# Altium integrated library Motorola Microcontroller 16-Bit.IntLib: 323 symbols (part 8 of 21)
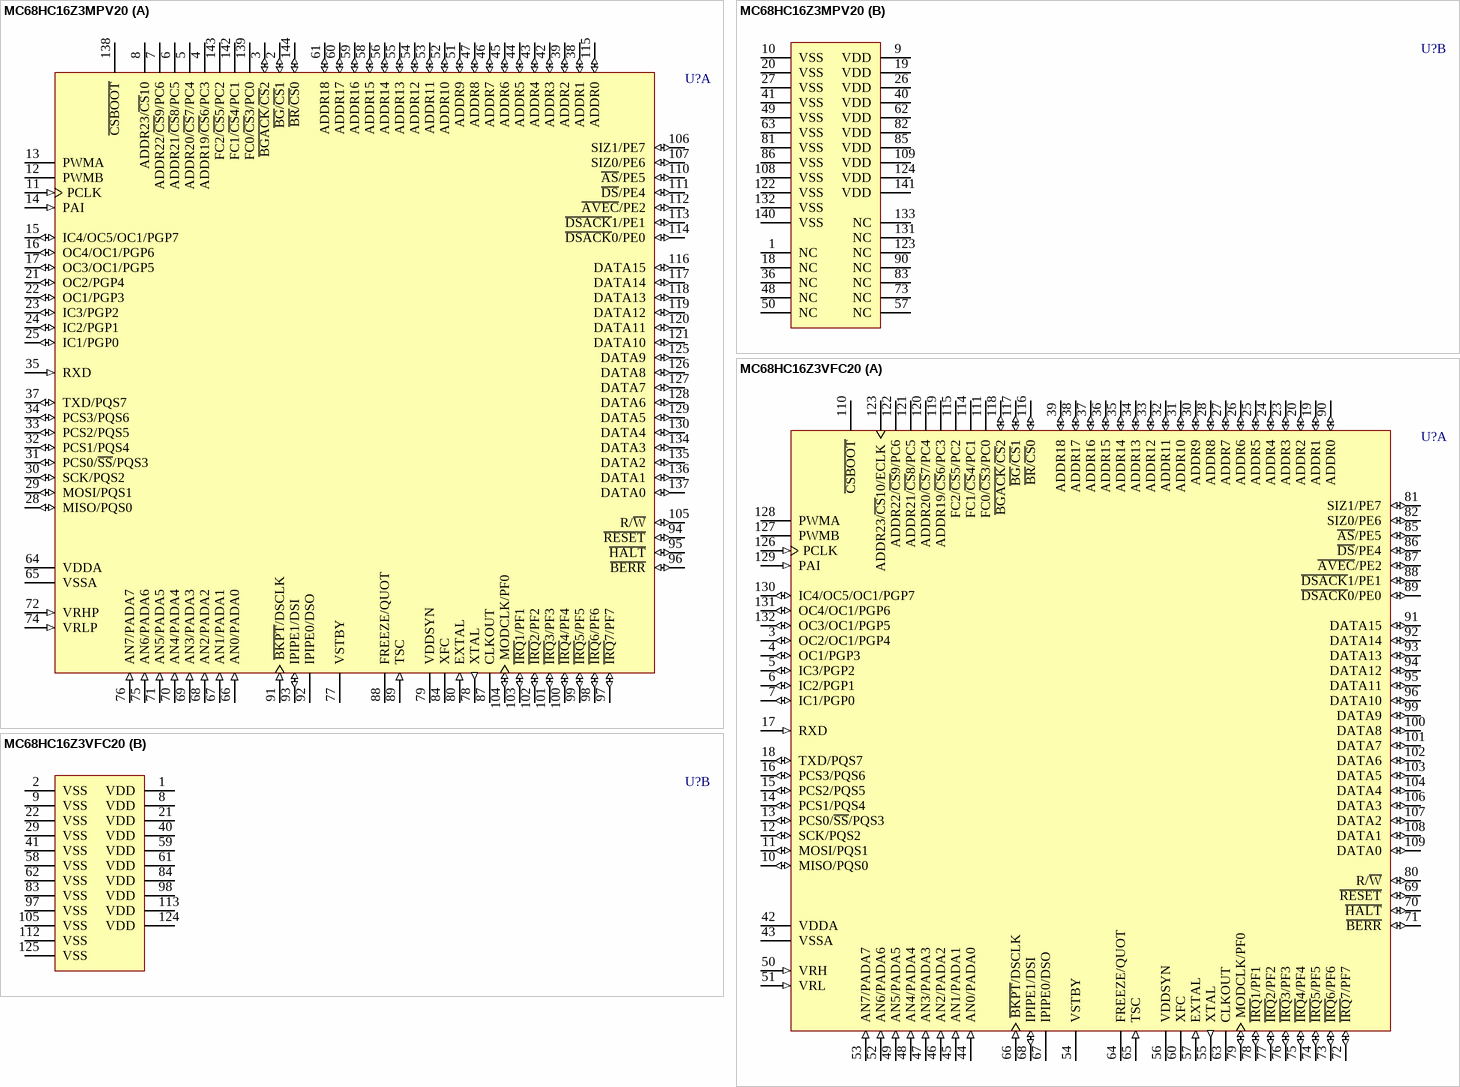
[diagram p148: symbols MC68HC16Z3MPV20 to MC68HC16Z3VFC20]

## MC68HC16Z3VFC20
designator U?
M68HC16 Z-Series MCU; PackageDocument: 1997; Published: 21-Mar-2003; DatasheetDocument: Oct-1997; PackageReference: 831A-01; Publisher: Altium Limited; ComponentLink1Description: Manufacturer Link; ComponentLink1URL: http://www.freescale.com/; ComponentLink2Description: Datasheet; ComponentLink2URL: http://www.freescale.com/files/microcontrollers/doc/user_guide/MC68HC16ZUM.pdf; ComponentLink3Description: Instruction Set; ComponentLink3URL: http://www.freescale.com/files/microcontrollers/doc/ref_manual/CPU16RM.pdf
footprint 831A-01 (PQFP; 132 Leads; Body 24.2 x 24.2 mm; Pitch 0.635 mm)
part A pins: 3 OC2/OC1/PGP4 (io), 4 OC1/PGP3 (io), 5 IC3/PGP2 (io), 6 IC2/PGP1 (io), 7 IC1/PGP0 (io), 10 MISO/PQS0 (io), 11 MOSI/PQS1 (io), 12 SCK/PQS2 (io), 13 PCS0/~{SS}/PQS3 (io), 14 PCS1/PQS4 (io), 15 PCS2/PQS5 (io), 16 PCS3/PQS6 (io), 17 RXD (in), 18 TXD/PQS7 (io), 19 ADDR1 (io), 20 ADDR2 (io), 23 ADDR3 (io), 24 ADDR4 (io), 25 ADDR5 (io), 26 ADDR6 (io), 27 ADDR7 (io), 28 ADDR8 (io), 30 ADDR9 (io), 31 ADDR10 (io), 32 ADDR11 (io), 33 ADDR12 (io), 34 ADDR13 (io), 35 ADDR14 (io), 36 ADDR15 (io), 37 ADDR16 (io), 38 ADDR17 (io), 39 ADDR18 (io), 42 VDDA (power), 43 VSSA (power), 44 AN0/PADA0 (in), 45 AN1/PADA1 (in), 46 AN2/PADA2 (in), 47 AN3/PADA3 (in), 48 AN4/PADA4 (in), 49 AN5/PADA5 (in), 50 VRH (in), 51 VRL (in), 52 AN6/PADA6 (in), 53 AN7/PADA7 (in), 54 VSTBY (power), 55 XTAL (out), 56 VDDSYN (power), 57 EXTAL (in), 60 XFC, 63 CLKOUT (hiz), 64 FREEZE/QUOT (hiz), 65 TSC (in), 66 ~{BKPT}/DSCLK (in), 67 IPIPE0/DSO (hiz), 68 IPIPE1/DSI (io), 69 ~{RESET} (io), 70 ~{HALT} (io), 71 ~{BERR} (io), 72 ~{IRQ}7/PF7 (io), 73 ~{IRQ}6/PF6 (io), 74 ~{IRQ}5/PF5 (io), 75 ~{IRQ}4/PF4 (io), 76 ~{IRQ}3/PF3 (io), 77 ~{IRQ}2/PF2 (io), 78 ~{IRQ}1/PF1 (io), 79 MODCLK/PF0 (io), 80 R/~{W} (io), 81 SIZ1/PE7 (io), 82 SIZ0/PE6 (io), 85 ~{AS}/PE5 (io), 86 ~{DS}/PE4 (io), 87 ~{AVEC}/PE2 (io), 88 ~{DSACK}1/PE1 (io), 89 ~{DSACK}0/PE0 (io), 90 ADDR0 (io), 91 DATA15 (io), 92 DATA14 (io), 93 DATA13 (io), 94 DATA12 (io), 95 DATA11 (io), 96 DATA10 (io), 99 DATA9 (io), 100 DATA8 (io), 101 DATA7 (io), 102 DATA6 (io), 103 DATA5 (io), 104 DATA4 (io), 106 DATA3 (io), 107 DATA2 (io), 108 DATA1 (io), 109 DATA0 (io), 110 ~{CSBOOT} (hiz), 111 FC0/~{CS}3/PC0 (hiz), 114 FC1/~{CS}4/PC1 (hiz), 115 FC2/~{CS}5/PC2 (hiz), 116 ~{BR}/~{CS}0 (io), 117 ~{BG}/~{CS}1 (io), 118 ~{BGACK}/~{CS}2 (io), 119 ADDR19/~{CS}6/PC3 (hiz), 120 ADDR20/~{CS}7/PC4 (hiz), 121 ADDR21/~{CS}8/PC5 (hiz), 122 ADDR22/~{CS}9/PC6 (hiz), 123 ADDR23/~{CS}10/ECLK (hiz), 126 PCLK (in), 127 PWMB (hiz), 128 PWMA (hiz), 129 PAI (in), 130 IC4/OC5/OC1/PGP7 (io), 131 OC4/OC1/PGP6 (io), 132 OC3/OC1/PGP5 (io)
part B pins: 1 VDD (power), 2 VSS (power), 8 VDD (power), 9 VSS (power), 21 VDD (power), 22 VSS (power), 29 VSS (power), 40 VDD (power), 41 VSS (power), 58 VSS (power), 59 VDD (power), 61 VDD (power), 62 VSS (power), 83 VSS (power), 84 VDD (power), 97 VSS (power), 98 VDD (power), 105 VSS (power), 112 VSS (power), 113 VDD (power), 124 VDD (power), 125 VSS (power)

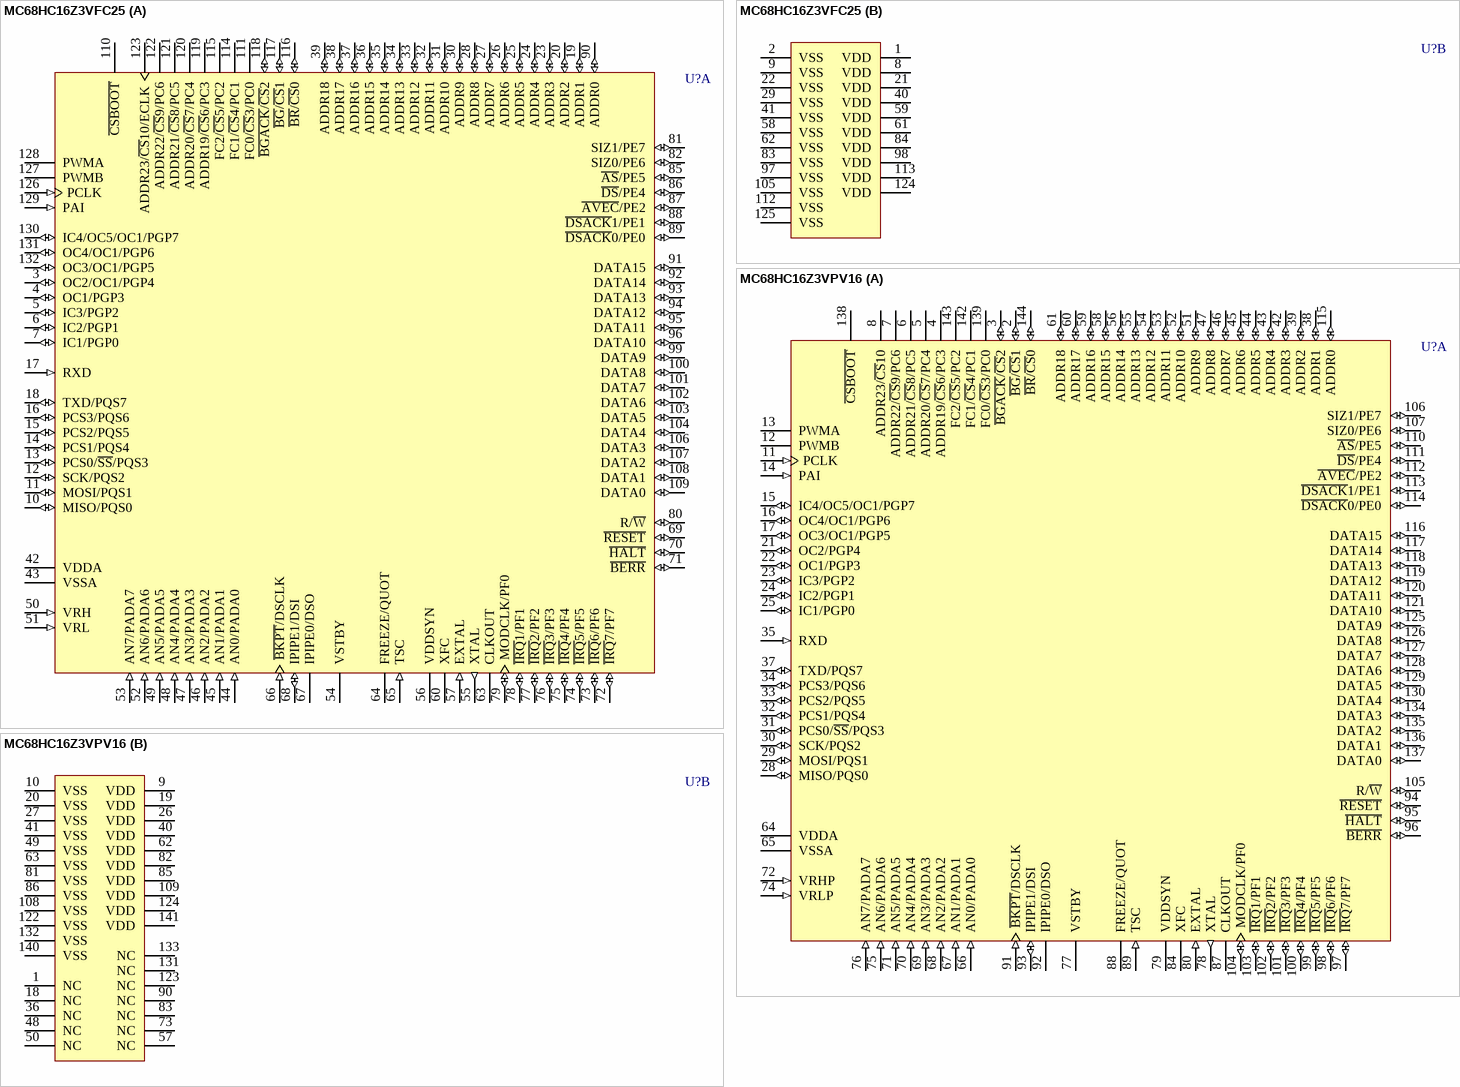
[diagram p41: symbols MC68HC16Z3VFC25 to MC68HC16Z3VPV16]

## MC68HC16Z3VFC25
designator U?
M68HC16 Z-Series MCU; PackageDocument: 1997; Published: 21-Mar-2003; DatasheetDocument: Oct-1997; PackageReference: 831A-01; Publisher: Altium Limited; ComponentLink1Description: Manufacturer Link; ComponentLink1URL: http://www.freescale.com/; ComponentLink2Description: Datasheet; ComponentLink2URL: http://www.freescale.com/files/microcontrollers/doc/user_guide/MC68HC16ZUM.pdf; ComponentLink3Description: Instruction Set; ComponentLink3URL: http://www.freescale.com/files/microcontrollers/doc/ref_manual/CPU16RM.pdf
footprint 831A-01 (PQFP; 132 Leads; Body 24.2 x 24.2 mm; Pitch 0.635 mm)
part A pins: 3 OC2/OC1/PGP4 (io), 4 OC1/PGP3 (io), 5 IC3/PGP2 (io), 6 IC2/PGP1 (io), 7 IC1/PGP0 (io), 10 MISO/PQS0 (io), 11 MOSI/PQS1 (io), 12 SCK/PQS2 (io), 13 PCS0/~{SS}/PQS3 (io), 14 PCS1/PQS4 (io), 15 PCS2/PQS5 (io), 16 PCS3/PQS6 (io), 17 RXD (in), 18 TXD/PQS7 (io), 19 ADDR1 (io), 20 ADDR2 (io), 23 ADDR3 (io), 24 ADDR4 (io), 25 ADDR5 (io), 26 ADDR6 (io), 27 ADDR7 (io), 28 ADDR8 (io), 30 ADDR9 (io), 31 ADDR10 (io), 32 ADDR11 (io), 33 ADDR12 (io), 34 ADDR13 (io), 35 ADDR14 (io), 36 ADDR15 (io), 37 ADDR16 (io), 38 ADDR17 (io), 39 ADDR18 (io), 42 VDDA (power), 43 VSSA (power), 44 AN0/PADA0 (in), 45 AN1/PADA1 (in), 46 AN2/PADA2 (in), 47 AN3/PADA3 (in), 48 AN4/PADA4 (in), 49 AN5/PADA5 (in), 50 VRH (in), 51 VRL (in), 52 AN6/PADA6 (in), 53 AN7/PADA7 (in), 54 VSTBY (power), 55 XTAL (out), 56 VDDSYN (power), 57 EXTAL (in), 60 XFC, 63 CLKOUT (hiz), 64 FREEZE/QUOT (hiz), 65 TSC (in), 66 ~{BKPT}/DSCLK (in), 67 IPIPE0/DSO (hiz), 68 IPIPE1/DSI (io), 69 ~{RESET} (io), 70 ~{HALT} (io), 71 ~{BERR} (io), 72 ~{IRQ}7/PF7 (io), 73 ~{IRQ}6/PF6 (io), 74 ~{IRQ}5/PF5 (io), 75 ~{IRQ}4/PF4 (io), 76 ~{IRQ}3/PF3 (io), 77 ~{IRQ}2/PF2 (io), 78 ~{IRQ}1/PF1 (io), 79 MODCLK/PF0 (io), 80 R/~{W} (io), 81 SIZ1/PE7 (io), 82 SIZ0/PE6 (io), 85 ~{AS}/PE5 (io), 86 ~{DS}/PE4 (io), 87 ~{AVEC}/PE2 (io), 88 ~{DSACK}1/PE1 (io), 89 ~{DSACK}0/PE0 (io), 90 ADDR0 (io), 91 DATA15 (io), 92 DATA14 (io), 93 DATA13 (io), 94 DATA12 (io), 95 DATA11 (io), 96 DATA10 (io), 99 DATA9 (io), 100 DATA8 (io), 101 DATA7 (io), 102 DATA6 (io), 103 DATA5 (io), 104 DATA4 (io), 106 DATA3 (io), 107 DATA2 (io), 108 DATA1 (io), 109 DATA0 (io), 110 ~{CSBOOT} (hiz), 111 FC0/~{CS}3/PC0 (hiz), 114 FC1/~{CS}4/PC1 (hiz), 115 FC2/~{CS}5/PC2 (hiz), 116 ~{BR}/~{CS}0 (io), 117 ~{BG}/~{CS}1 (io), 118 ~{BGACK}/~{CS}2 (io), 119 ADDR19/~{CS}6/PC3 (hiz), 120 ADDR20/~{CS}7/PC4 (hiz), 121 ADDR21/~{CS}8/PC5 (hiz), 122 ADDR22/~{CS}9/PC6 (hiz), 123 ADDR23/~{CS}10/ECLK (hiz), 126 PCLK (in), 127 PWMB (hiz), 128 PWMA (hiz), 129 PAI (in), 130 IC4/OC5/OC1/PGP7 (io), 131 OC4/OC1/PGP6 (io), 132 OC3/OC1/PGP5 (io)
part B pins: 1 VDD (power), 2 VSS (power), 8 VDD (power), 9 VSS (power), 21 VDD (power), 22 VSS (power), 29 VSS (power), 40 VDD (power), 41 VSS (power), 58 VSS (power), 59 VDD (power), 61 VDD (power), 62 VSS (power), 83 VSS (power), 84 VDD (power), 97 VSS (power), 98 VDD (power), 105 VSS (power), 112 VSS (power), 113 VDD (power), 124 VDD (power), 125 VSS (power)

## MC68HC16Z3VPV16
designator U?
M68HC16 Z-Series MCU; PackageDocument: 1997; Published: 21-Mar-2003; LatestRevisionDate: 6-Jun-2005; LatestRevisionNote: Stylized 3D Model Added.; DatasheetDocument: Oct-1997; PackageReference: 918; Publisher: Altium Limited; Code_IPC: SQFP20X20-144; ComponentLink1Description: Manufacturer Link; ComponentLink1URL: http://www.freescale.com/; ComponentLink2Description: Datasheet; ComponentLink2URL: http://www.freescale.com/files/microcontrollers/doc/user_guide/MC68HC16ZUM.pdf; ComponentLink3Description: Instruction Set; ComponentLink3URL: http://www.freescale.com/files/microcontrollers/doc/ref_manual/CPU16RM.pdf
footprint 918 (QFP; 144 Leads; Body 20 x 20 mm; Pitch 0.5 mm)
3D model MC68HC16-918 (QFP; 144 Leads; Body 20 x 20 mm; Pitch 0.5 mm)
part A pins: 2 ~{BG}/~{CS}1 (io), 3 ~{BGACK}/~{CS}2 (io), 4 ADDR19/~{CS}6/PC3 (hiz), 5 ADDR20/~{CS}7/PC4 (hiz), 6 ADDR21/~{CS}8/PC5 (hiz), 7 ADDR22/~{CS}9/PC6 (hiz), 8 ADDR23/~{CS}10 (hiz), 11 PCLK (in), 12 PWMB (hiz), 13 PWMA (hiz), 14 PAI (in), 15 IC4/OC5/OC1/PGP7 (io), 16 OC4/OC1/PGP6 (io), 17 OC3/OC1/PGP5 (io), 21 OC2/PGP4 (io), 22 OC1/PGP3 (io), 23 IC3/PGP2 (io), 24 IC2/PGP1 (io), 25 IC1/PGP0 (io), 28 MISO/PQS0 (io), 29 MOSI/PQS1 (io), 30 SCK/PQS2 (io), 31 PCS0/~{SS}/PQS3 (io), 32 PCS1/PQS4 (io), 33 PCS2/PQS5 (io), 34 PCS3/PQS6 (io), 35 RXD (in), 37 TXD/PQS7 (io), 38 ADDR1 (io), 39 ADDR2 (io), 42 ADDR3 (io), 43 ADDR4 (io), 44 ADDR5 (io), 45 ADDR6 (io), 46 ADDR7 (io), 47 ADDR8 (io), 51 ADDR9 (io), 52 ADDR10 (io), 53 ADDR11 (io), 54 ADDR12 (io), 55 ADDR13 (io), 56 ADDR14 (io), 58 ADDR15 (io), 59 ADDR16 (io), 60 ADDR17 (io), 61 ADDR18 (io), 64 VDDA (power), 65 VSSA (power), 66 AN0/PADA0 (in), 67 AN1/PADA1 (in), 68 AN2/PADA2 (in), 69 AN3/PADA3 (in), 70 AN4/PADA4 (in), 71 AN5/PADA5 (in), 72 VRHP (in), 74 VRLP (in), 75 AN6/PADA6 (in), 76 AN7/PADA7 (in), 77 VSTBY (power), 78 XTAL (out), 79 VDDSYN (power), 80 EXTAL (in), 84 XFC, 87 CLKOUT (hiz), 88 FREEZE/QUOT (hiz), 89 TSC (in), 91 ~{BKPT}/DSCLK (in), 92 IPIPE0/DSO (hiz), 93 IPIPE1/DSI (io), 94 ~{RESET} (io), 95 ~{HALT} (io), 96 ~{BERR} (io), 97 ~{IRQ}7/PF7 (io), 98 ~{IRQ}6/PF6 (io), 99 ~{IRQ}5/PF5 (io), 100 ~{IRQ}4/PF4 (io), 101 ~{IRQ}3/PF3 (io), 102 ~{IRQ}2/PF2 (io), 103 ~{IRQ}1/PF1 (io), 104 MODCLK/PF0 (io), 105 R/~{W} (io), 106 SIZ1/PE7 (io), 107 SIZ0/PE6 (io), 110 ~{AS}/PE5 (io), 111 ~{DS}/PE4 (io), 112 ~{AVEC}/PE2 (io), 113 ~{DSACK}1/PE1 (io), 114 ~{DSACK}0/PE0 (io), 115 ADDR0 (io), 116 DATA15 (io), 117 DATA14 (io), 118 DATA13 (io), 119 DATA12 (io), 120 DATA11 (io), 121 DATA10 (io), 125 DATA9 (io), 126 DATA8 (io), 127 DATA7 (io), 128 DATA6 (io), 129 DATA5 (io), 130 DATA4 (io), 134 DATA3 (io), 135 DATA2 (io), 136 DATA1 (io), 137 DATA0 (io), 138 ~{CSBOOT} (hiz), 139 FC0/~{CS}3/PC0 (hiz), 142 FC1/~{CS}4/PC1 (hiz), 143 FC2/~{CS}5/PC2 (hiz), 144 ~{BR}/~{CS}0 (io)
part B pins: 1 NC, 9 VDD (power), 10 VSS (power), 18 NC, 19 VDD (power), 20 VSS (power), 26 VDD (power), 27 VSS (power), 36 NC, 40 VDD (power), 41 VSS (power), 48 NC, 49 VSS (power), 50 NC, 57 NC, 62 VDD (power), 63 VSS (power), 73 NC, 81 VSS (power), 82 VDD (power), 83 NC, 85 VDD (power), 86 VSS (power), 90 NC, 108 VSS (power), 109 VDD (power), 122 VSS (power), 123 NC, 124 VDD (power), 131 NC, 132 VSS (power), 133 NC, 140 VSS (power), 141 VDD (power)

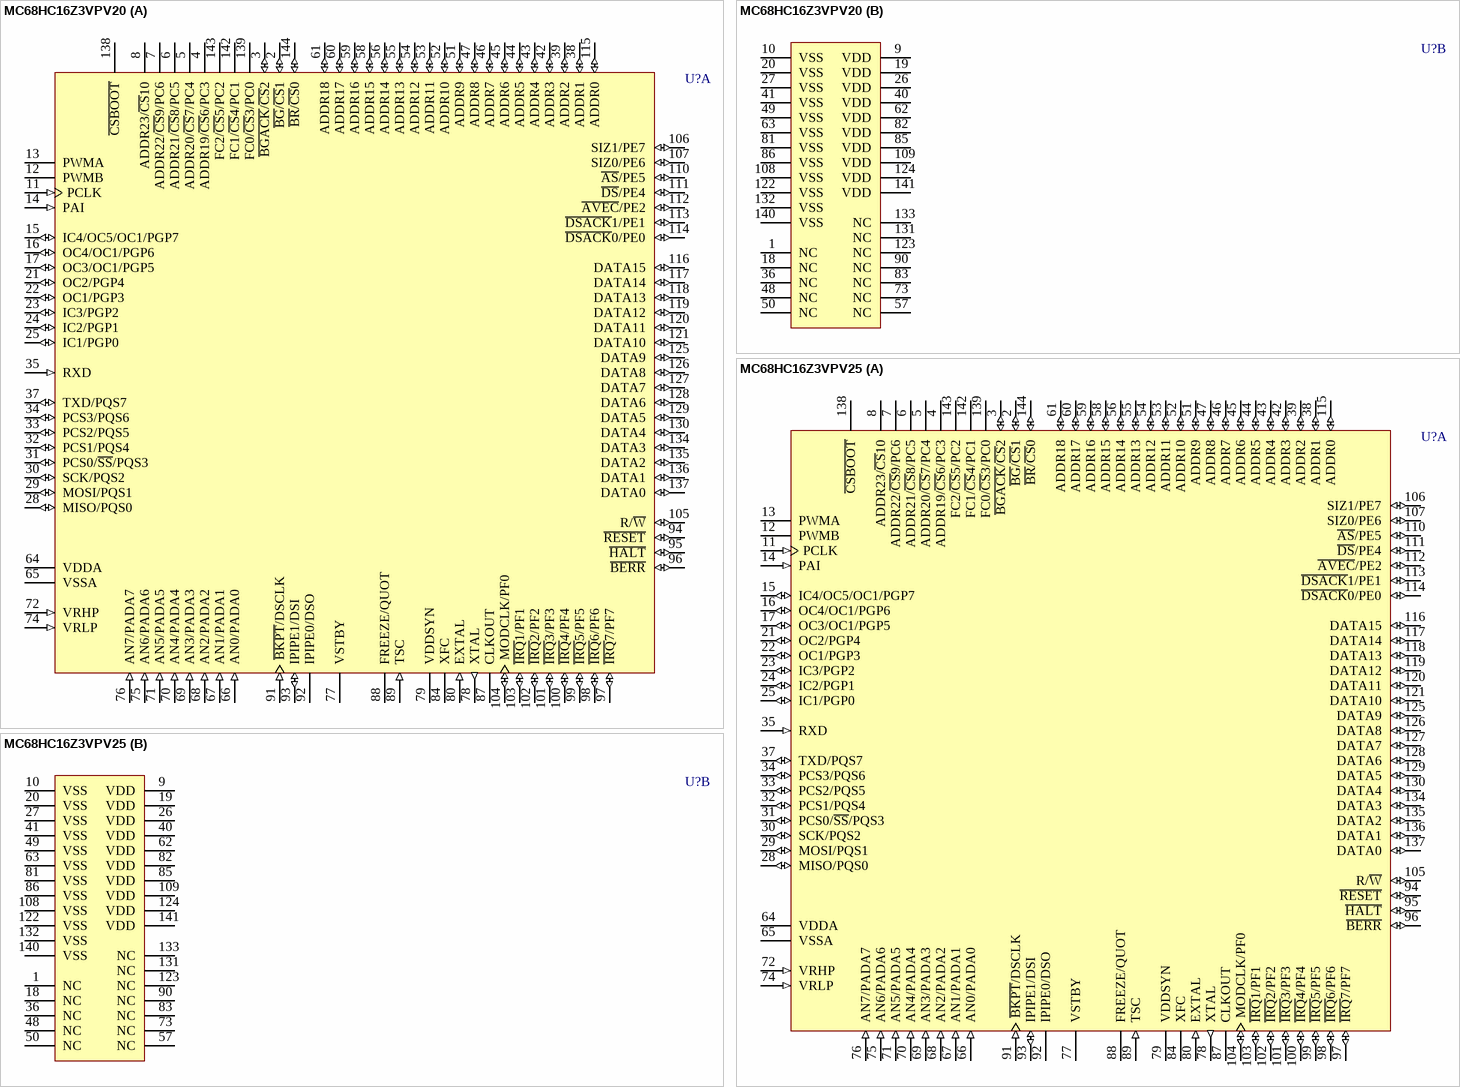
[diagram p42: symbols MC68HC16Z3VPV20 to MC68HC16Z3VPV25]

## MC68HC16Z3VPV20
designator U?
M68HC16 Z-Series MCU; PackageDocument: 1997; Published: 21-Mar-2003; LatestRevisionDate: 6-Jun-2005; LatestRevisionNote: Stylized 3D Model Added.; DatasheetDocument: Oct-1997; PackageReference: 918; Publisher: Altium Limited; Code_IPC: SQFP20X20-144; ComponentLink1Description: Manufacturer Link; ComponentLink1URL: http://www.freescale.com/; ComponentLink2Description: Datasheet; ComponentLink2URL: http://www.freescale.com/files/microcontrollers/doc/user_guide/MC68HC16ZUM.pdf; ComponentLink3Description: Instruction Set; ComponentLink3URL: http://www.freescale.com/files/microcontrollers/doc/ref_manual/CPU16RM.pdf
footprint 918 (QFP; 144 Leads; Body 20 x 20 mm; Pitch 0.5 mm)
3D model MC68HC16-918 (QFP; 144 Leads; Body 20 x 20 mm; Pitch 0.5 mm)
part A pins: 2 ~{BG}/~{CS}1 (io), 3 ~{BGACK}/~{CS}2 (io), 4 ADDR19/~{CS}6/PC3 (hiz), 5 ADDR20/~{CS}7/PC4 (hiz), 6 ADDR21/~{CS}8/PC5 (hiz), 7 ADDR22/~{CS}9/PC6 (hiz), 8 ADDR23/~{CS}10 (hiz), 11 PCLK (in), 12 PWMB (hiz), 13 PWMA (hiz), 14 PAI (in), 15 IC4/OC5/OC1/PGP7 (io), 16 OC4/OC1/PGP6 (io), 17 OC3/OC1/PGP5 (io), 21 OC2/PGP4 (io), 22 OC1/PGP3 (io), 23 IC3/PGP2 (io), 24 IC2/PGP1 (io), 25 IC1/PGP0 (io), 28 MISO/PQS0 (io), 29 MOSI/PQS1 (io), 30 SCK/PQS2 (io), 31 PCS0/~{SS}/PQS3 (io), 32 PCS1/PQS4 (io), 33 PCS2/PQS5 (io), 34 PCS3/PQS6 (io), 35 RXD (in), 37 TXD/PQS7 (io), 38 ADDR1 (io), 39 ADDR2 (io), 42 ADDR3 (io), 43 ADDR4 (io), 44 ADDR5 (io), 45 ADDR6 (io), 46 ADDR7 (io), 47 ADDR8 (io), 51 ADDR9 (io), 52 ADDR10 (io), 53 ADDR11 (io), 54 ADDR12 (io), 55 ADDR13 (io), 56 ADDR14 (io), 58 ADDR15 (io), 59 ADDR16 (io), 60 ADDR17 (io), 61 ADDR18 (io), 64 VDDA (power), 65 VSSA (power), 66 AN0/PADA0 (in), 67 AN1/PADA1 (in), 68 AN2/PADA2 (in), 69 AN3/PADA3 (in), 70 AN4/PADA4 (in), 71 AN5/PADA5 (in), 72 VRHP (in), 74 VRLP (in), 75 AN6/PADA6 (in), 76 AN7/PADA7 (in), 77 VSTBY (power), 78 XTAL (out), 79 VDDSYN (power), 80 EXTAL (in), 84 XFC, 87 CLKOUT (hiz), 88 FREEZE/QUOT (hiz), 89 TSC (in), 91 ~{BKPT}/DSCLK (in), 92 IPIPE0/DSO (hiz), 93 IPIPE1/DSI (io), 94 ~{RESET} (io), 95 ~{HALT} (io), 96 ~{BERR} (io), 97 ~{IRQ}7/PF7 (io), 98 ~{IRQ}6/PF6 (io), 99 ~{IRQ}5/PF5 (io), 100 ~{IRQ}4/PF4 (io), 101 ~{IRQ}3/PF3 (io), 102 ~{IRQ}2/PF2 (io), 103 ~{IRQ}1/PF1 (io), 104 MODCLK/PF0 (io), 105 R/~{W} (io), 106 SIZ1/PE7 (io), 107 SIZ0/PE6 (io), 110 ~{AS}/PE5 (io), 111 ~{DS}/PE4 (io), 112 ~{AVEC}/PE2 (io), 113 ~{DSACK}1/PE1 (io), 114 ~{DSACK}0/PE0 (io), 115 ADDR0 (io), 116 DATA15 (io), 117 DATA14 (io), 118 DATA13 (io), 119 DATA12 (io), 120 DATA11 (io), 121 DATA10 (io), 125 DATA9 (io), 126 DATA8 (io), 127 DATA7 (io), 128 DATA6 (io), 129 DATA5 (io), 130 DATA4 (io), 134 DATA3 (io), 135 DATA2 (io), 136 DATA1 (io), 137 DATA0 (io), 138 ~{CSBOOT} (hiz), 139 FC0/~{CS}3/PC0 (hiz), 142 FC1/~{CS}4/PC1 (hiz), 143 FC2/~{CS}5/PC2 (hiz), 144 ~{BR}/~{CS}0 (io)
part B pins: 1 NC, 9 VDD (power), 10 VSS (power), 18 NC, 19 VDD (power), 20 VSS (power), 26 VDD (power), 27 VSS (power), 36 NC, 40 VDD (power), 41 VSS (power), 48 NC, 49 VSS (power), 50 NC, 57 NC, 62 VDD (power), 63 VSS (power), 73 NC, 81 VSS (power), 82 VDD (power), 83 NC, 85 VDD (power), 86 VSS (power), 90 NC, 108 VSS (power), 109 VDD (power), 122 VSS (power), 123 NC, 124 VDD (power), 131 NC, 132 VSS (power), 133 NC, 140 VSS (power), 141 VDD (power)

## MC68HC16Z3VPV25
designator U?
M68HC16 Z-Series MCU; PackageDocument: 1997; Published: 21-Mar-2003; LatestRevisionDate: 6-Jun-2005; LatestRevisionNote: Stylized 3D Model Added.; DatasheetDocument: Oct-1997; PackageReference: 918; Publisher: Altium Limited; Code_IPC: SQFP20X20-144; ComponentLink1Description: Manufacturer Link; ComponentLink1URL: http://www.freescale.com/; ComponentLink2Description: Datasheet; ComponentLink2URL: http://www.freescale.com/files/microcontrollers/doc/user_guide/MC68HC16ZUM.pdf; ComponentLink3Description: Instruction Set; ComponentLink3URL: http://www.freescale.com/files/microcontrollers/doc/ref_manual/CPU16RM.pdf
footprint 918 (QFP; 144 Leads; Body 20 x 20 mm; Pitch 0.5 mm)
3D model MC68HC16-918 (QFP; 144 Leads; Body 20 x 20 mm; Pitch 0.5 mm)
part A pins: 2 ~{BG}/~{CS}1 (io), 3 ~{BGACK}/~{CS}2 (io), 4 ADDR19/~{CS}6/PC3 (hiz), 5 ADDR20/~{CS}7/PC4 (hiz), 6 ADDR21/~{CS}8/PC5 (hiz), 7 ADDR22/~{CS}9/PC6 (hiz), 8 ADDR23/~{CS}10 (hiz), 11 PCLK (in), 12 PWMB (hiz), 13 PWMA (hiz), 14 PAI (in), 15 IC4/OC5/OC1/PGP7 (io), 16 OC4/OC1/PGP6 (io), 17 OC3/OC1/PGP5 (io), 21 OC2/PGP4 (io), 22 OC1/PGP3 (io), 23 IC3/PGP2 (io), 24 IC2/PGP1 (io), 25 IC1/PGP0 (io), 28 MISO/PQS0 (io), 29 MOSI/PQS1 (io), 30 SCK/PQS2 (io), 31 PCS0/~{SS}/PQS3 (io), 32 PCS1/PQS4 (io), 33 PCS2/PQS5 (io), 34 PCS3/PQS6 (io), 35 RXD (in), 37 TXD/PQS7 (io), 38 ADDR1 (io), 39 ADDR2 (io), 42 ADDR3 (io), 43 ADDR4 (io), 44 ADDR5 (io), 45 ADDR6 (io), 46 ADDR7 (io), 47 ADDR8 (io), 51 ADDR9 (io), 52 ADDR10 (io), 53 ADDR11 (io), 54 ADDR12 (io), 55 ADDR13 (io), 56 ADDR14 (io), 58 ADDR15 (io), 59 ADDR16 (io), 60 ADDR17 (io), 61 ADDR18 (io), 64 VDDA (power), 65 VSSA (power), 66 AN0/PADA0 (in), 67 AN1/PADA1 (in), 68 AN2/PADA2 (in), 69 AN3/PADA3 (in), 70 AN4/PADA4 (in), 71 AN5/PADA5 (in), 72 VRHP (in), 74 VRLP (in), 75 AN6/PADA6 (in), 76 AN7/PADA7 (in), 77 VSTBY (power), 78 XTAL (out), 79 VDDSYN (power), 80 EXTAL (in), 84 XFC, 87 CLKOUT (hiz), 88 FREEZE/QUOT (hiz), 89 TSC (in), 91 ~{BKPT}/DSCLK (in), 92 IPIPE0/DSO (hiz), 93 IPIPE1/DSI (io), 94 ~{RESET} (io), 95 ~{HALT} (io), 96 ~{BERR} (io), 97 ~{IRQ}7/PF7 (io), 98 ~{IRQ}6/PF6 (io), 99 ~{IRQ}5/PF5 (io), 100 ~{IRQ}4/PF4 (io), 101 ~{IRQ}3/PF3 (io), 102 ~{IRQ}2/PF2 (io), 103 ~{IRQ}1/PF1 (io), 104 MODCLK/PF0 (io), 105 R/~{W} (io), 106 SIZ1/PE7 (io), 107 SIZ0/PE6 (io), 110 ~{AS}/PE5 (io), 111 ~{DS}/PE4 (io), 112 ~{AVEC}/PE2 (io), 113 ~{DSACK}1/PE1 (io), 114 ~{DSACK}0/PE0 (io), 115 ADDR0 (io), 116 DATA15 (io), 117 DATA14 (io), 118 DATA13 (io), 119 DATA12 (io), 120 DATA11 (io), 121 DATA10 (io), 125 DATA9 (io), 126 DATA8 (io), 127 DATA7 (io), 128 DATA6 (io), 129 DATA5 (io), 130 DATA4 (io), 134 DATA3 (io), 135 DATA2 (io), 136 DATA1 (io), 137 DATA0 (io), 138 ~{CSBOOT} (hiz), 139 FC0/~{CS}3/PC0 (hiz), 142 FC1/~{CS}4/PC1 (hiz), 143 FC2/~{CS}5/PC2 (hiz), 144 ~{BR}/~{CS}0 (io)
part B pins: 1 NC, 9 VDD (power), 10 VSS (power), 18 NC, 19 VDD (power), 20 VSS (power), 26 VDD (power), 27 VSS (power), 36 NC, 40 VDD (power), 41 VSS (power), 48 NC, 49 VSS (power), 50 NC, 57 NC, 62 VDD (power), 63 VSS (power), 73 NC, 81 VSS (power), 82 VDD (power), 83 NC, 85 VDD (power), 86 VSS (power), 90 NC, 108 VSS (power), 109 VDD (power), 122 VSS (power), 123 NC, 124 VDD (power), 131 NC, 132 VSS (power), 133 NC, 140 VSS (power), 141 VDD (power)

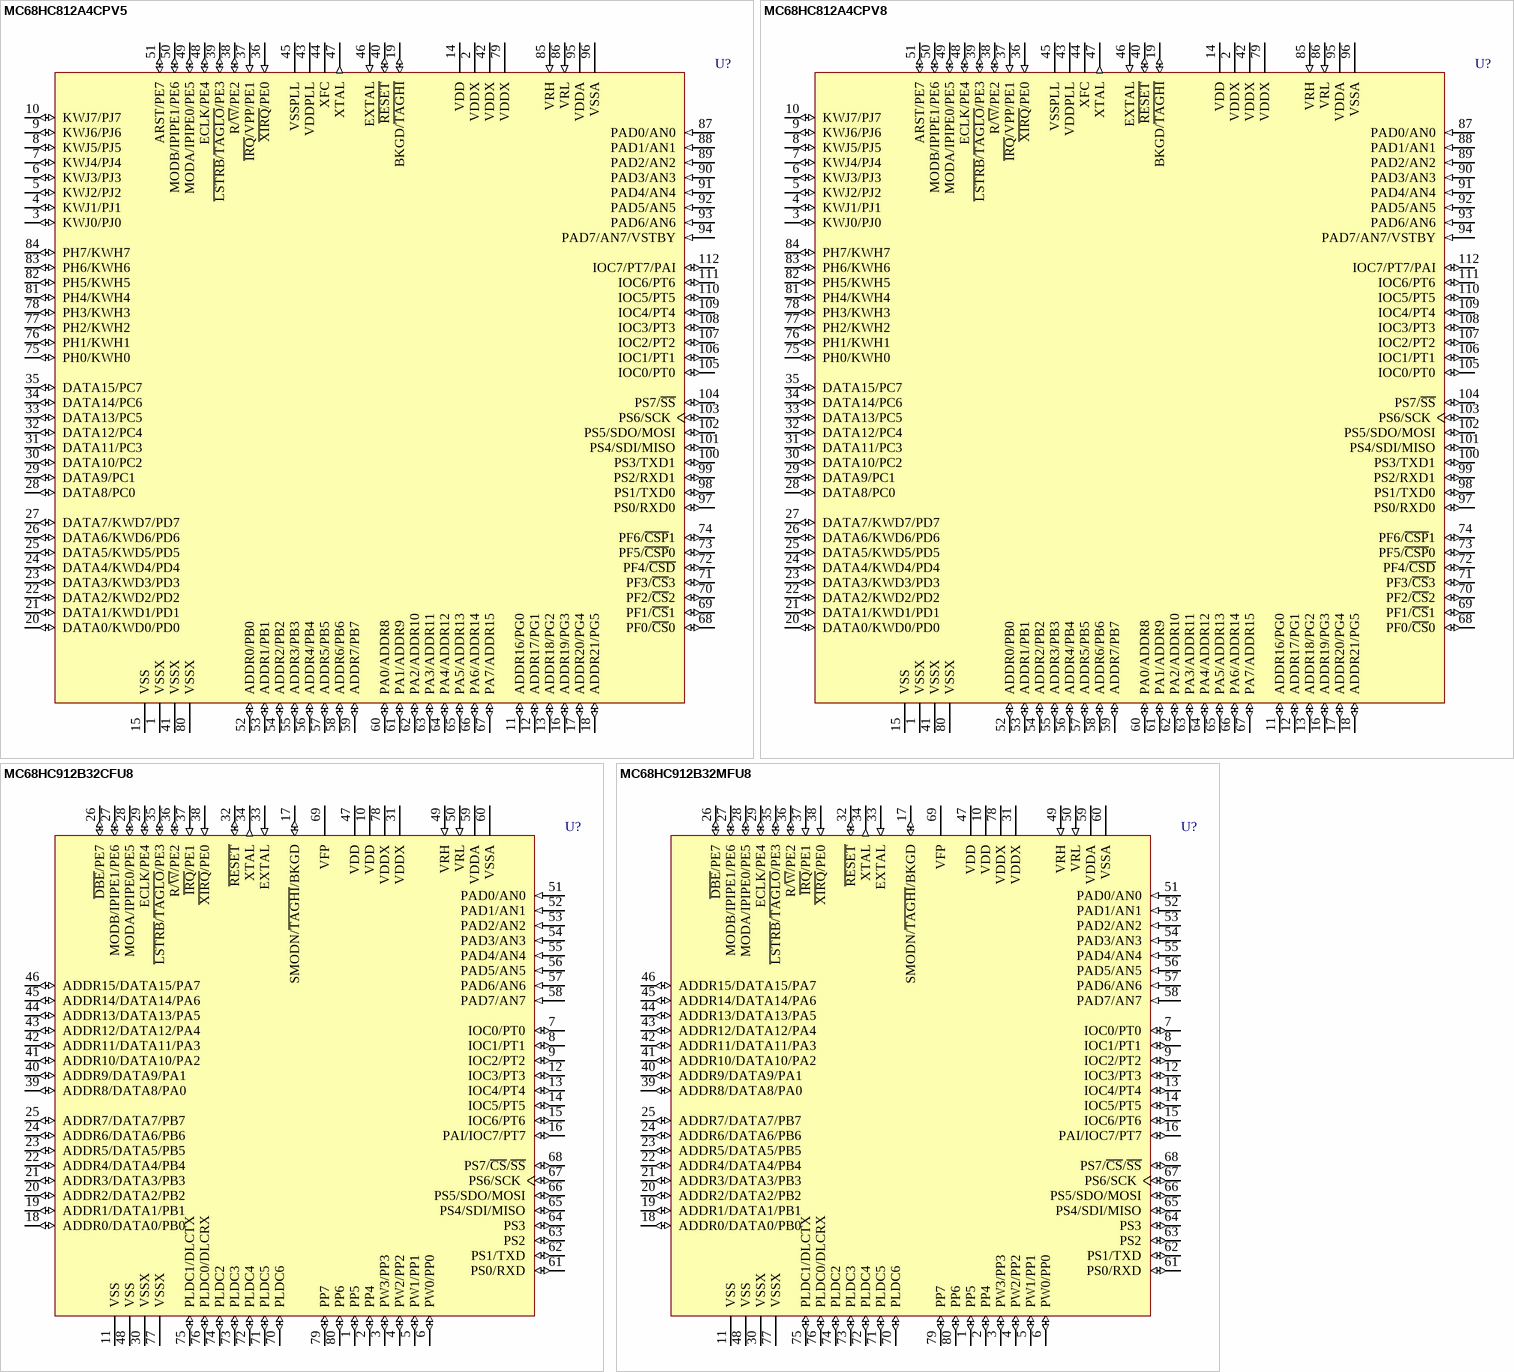
[diagram p43: symbols MC68HC812A4CPV5 to MC68HC912B32MFU8]

## MC68HC812A4CPV5
designator U?
16-Bit Microcontroller; PackageDocument: rev3.1, Nov-2000; Published: 21-Mar-2003; LatestRevisionDate: 6-Jun-2005; LatestRevisionNote: Stylized 3D Model Added.; DatasheetDocument: 9-Sep-2002; PackageReference: 987-01; Publisher: Altium Limited; ComponentLink1Description: Manufacturer Link; ComponentLink1URL: http://www.freescale.com/
footprint 987-01 (QFP; 112 Leads; Body 20 x 20 mm; Pitch 0.65 mm)
3D model MC68HC812-987-01 (QFP; 112 Leads; Body 20 x 20 mm; Pitch 0.65 mm)
pins: 1 VSSX (power), 2 VDDX (power), 3 KWJ0/PJ0 (io), 4 KWJ1/PJ1 (io), 5 KWJ2/PJ2 (io), 6 KWJ3/PJ3 (io), 7 KWJ4/PJ4 (io), 8 KWJ5/PJ5 (io), 9 KWJ6/PJ6 (io), 10 KWJ7/PJ7 (io), 11 ADDR16/PG0 (io), 12 ADDR17/PG1 (io), 13 ADDR18/PG2 (io), 14 VDD (power), 15 VSS (power), 16 ADDR19/PG3 (io), 17 ADDR20/PG4 (io), 18 ADDR21/PG5 (io), 19 BKGD/~{TAGHI} (io), 20 DATA0/KWD0/PD0 (io), 21 DATA1/KWD1/PD1 (io), 22 DATA2/KWD2/PD2 (io), 23 DATA3/KWD3/PD3 (io), 24 DATA4/KWD4/PD4 (io), 25 DATA5/KWD5/PD5 (io), 26 DATA6/KWD6/PD6 (io), 27 DATA7/KWD7/PD7 (io), 28 DATA8/PC0 (io), 29 DATA9/PC1 (io), 30 DATA10/PC2 (io), 31 DATA11/PC3 (io), 32 DATA12/PC4 (io), 33 DATA13/PC5 (io), 34 DATA14/PC6 (io), 35 DATA15/PC7 (io), 36 ~{XIRQ}/PE0 (in), 37 ~{IRQ}/VPP/PE1 (in), 38 R/~{W}/PE2 (io), 39 ~{LSTRB}/~{TAGLO}/PE3 (io), 40 ~{RESET} (io), 41 VSSX (power), 42 VDDX (power), 43 VDDPLL (power), 44 XFC, 45 VSSPLL (power), 46 EXTAL (in), 47 XTAL (out), 48 ECLK/PE4 (io), 49 MODA/IPIPE0/PE5 (io), 50 MODB/IPIPE1/PE6 (io), 51 ARST/PE7 (io), 52 ADDR0/PB0 (io), 53 ADDR1/PB1 (io), 54 ADDR2/PB2 (io), 55 ADDR3/PB3 (io), 56 ADDR4/PB4 (io), 57 ADDR5/PB5 (io), 58 ADDR6/PB6 (io), 59 ADDR7/PB7 (io), 60 PA0/ADDR8 (io), 61 PA1/ADDR9 (io), 62 PA2/ADDR10 (io), 63 PA3/ADDR11 (io), 64 PA4/ADDR12 (io), 65 PA5/ADDR13 (io), 66 PA6/ADDR14 (io), 67 PA7/ADDR15 (io), 68 PF0/~{CS}0 (io), 69 PF1/~{CS}1 (io), 70 PF2/~{CS}2 (io), 71 PF3/~{CS}3 (io), 72 PF4/~{CSD} (io), 73 PF5/~{CSP}0 (io), 74 PF6/~{CSP}1 (io), 75 PH0/KWH0 (io), 76 PH1/KWH1 (io), 77 PH2/KWH2 (io), 78 PH3/KWH3 (io), 79 VDDX (power), 80 VSSX (power), 81 PH4/KWH4 (io), 82 PH5/KWH5 (io), 83 PH6/KWH6 (io), 84 PH7/KWH7 (io), 85 VRH (in), 86 VRL (in), 87 PAD0/AN0 (in), 88 PAD1/AN1 (in), 89 PAD2/AN2 (in), 90 PAD3/AN3 (in), 91 PAD4/AN4 (in), 92 PAD5/AN5 (in), 93 PAD6/AN6 (in), 94 PAD7/AN7/VSTBY (in), 95 VDDA (power), 96 VSSA (power), 97 PS0/RXD0 (io), 98 PS1/TXD0 (io), 99 PS2/RXD1 (io), 100 PS3/TXD1 (io), 101 PS4/SDI/MISO (io), 102 PS5/SDO/MOSI (io), 103 PS6/SCK (io), 104 PS7/~{SS} (io), 105 IOC0/PT0 (io), 106 IOC1/PT1 (io), 107 IOC2/PT2 (io), 108 IOC3/PT3 (io), 109 IOC4/PT4 (io), 110 IOC5/PT5 (io), 111 IOC6/PT6 (io), 112 IOC7/PT7/PAI (io)

## MC68HC812A4CPV8
designator U?
16-Bit Microcontroller; PackageDocument: rev3.1, Nov-2000; Published: 21-Mar-2003; LatestRevisionDate: 6-Jun-2005; LatestRevisionNote: Stylized 3D Model Added.; DatasheetDocument: 9-Sep-2002; PackageReference: 987-01; Publisher: Altium Limited; ComponentLink1Description: Manufacturer Link; ComponentLink1URL: http://www.freescale.com/
footprint 987-01 (QFP; 112 Leads; Body 20 x 20 mm; Pitch 0.65 mm)
3D model MC68HC812-987-01 (QFP; 112 Leads; Body 20 x 20 mm; Pitch 0.65 mm)
pins: 1 VSSX (power), 2 VDDX (power), 3 KWJ0/PJ0 (io), 4 KWJ1/PJ1 (io), 5 KWJ2/PJ2 (io), 6 KWJ3/PJ3 (io), 7 KWJ4/PJ4 (io), 8 KWJ5/PJ5 (io), 9 KWJ6/PJ6 (io), 10 KWJ7/PJ7 (io), 11 ADDR16/PG0 (io), 12 ADDR17/PG1 (io), 13 ADDR18/PG2 (io), 14 VDD (power), 15 VSS (power), 16 ADDR19/PG3 (io), 17 ADDR20/PG4 (io), 18 ADDR21/PG5 (io), 19 BKGD/~{TAGHI} (io), 20 DATA0/KWD0/PD0 (io), 21 DATA1/KWD1/PD1 (io), 22 DATA2/KWD2/PD2 (io), 23 DATA3/KWD3/PD3 (io), 24 DATA4/KWD4/PD4 (io), 25 DATA5/KWD5/PD5 (io), 26 DATA6/KWD6/PD6 (io), 27 DATA7/KWD7/PD7 (io), 28 DATA8/PC0 (io), 29 DATA9/PC1 (io), 30 DATA10/PC2 (io), 31 DATA11/PC3 (io), 32 DATA12/PC4 (io), 33 DATA13/PC5 (io), 34 DATA14/PC6 (io), 35 DATA15/PC7 (io), 36 ~{XIRQ}/PE0 (in), 37 ~{IRQ}/VPP/PE1 (in), 38 R/~{W}/PE2 (io), 39 ~{LSTRB}/~{TAGLO}/PE3 (io), 40 ~{RESET} (io), 41 VSSX (power), 42 VDDX (power), 43 VDDPLL (power), 44 XFC, 45 VSSPLL (power), 46 EXTAL (in), 47 XTAL (out), 48 ECLK/PE4 (io), 49 MODA/IPIPE0/PE5 (io), 50 MODB/IPIPE1/PE6 (io), 51 ARST/PE7 (io), 52 ADDR0/PB0 (io), 53 ADDR1/PB1 (io), 54 ADDR2/PB2 (io), 55 ADDR3/PB3 (io), 56 ADDR4/PB4 (io), 57 ADDR5/PB5 (io), 58 ADDR6/PB6 (io), 59 ADDR7/PB7 (io), 60 PA0/ADDR8 (io), 61 PA1/ADDR9 (io), 62 PA2/ADDR10 (io), 63 PA3/ADDR11 (io), 64 PA4/ADDR12 (io), 65 PA5/ADDR13 (io), 66 PA6/ADDR14 (io), 67 PA7/ADDR15 (io), 68 PF0/~{CS}0 (io), 69 PF1/~{CS}1 (io), 70 PF2/~{CS}2 (io), 71 PF3/~{CS}3 (io), 72 PF4/~{CSD} (io), 73 PF5/~{CSP}0 (io), 74 PF6/~{CSP}1 (io), 75 PH0/KWH0 (io), 76 PH1/KWH1 (io), 77 PH2/KWH2 (io), 78 PH3/KWH3 (io), 79 VDDX (power), 80 VSSX (power), 81 PH4/KWH4 (io), 82 PH5/KWH5 (io), 83 PH6/KWH6 (io), 84 PH7/KWH7 (io), 85 VRH (in), 86 VRL (in), 87 PAD0/AN0 (in), 88 PAD1/AN1 (in), 89 PAD2/AN2 (in), 90 PAD3/AN3 (in), 91 PAD4/AN4 (in), 92 PAD5/AN5 (in), 93 PAD6/AN6 (in), 94 PAD7/AN7/VSTBY (in), 95 VDDA (power), 96 VSSA (power), 97 PS0/RXD0 (io), 98 PS1/TXD0 (io), 99 PS2/RXD1 (io), 100 PS3/TXD1 (io), 101 PS4/SDI/MISO (io), 102 PS5/SDO/MOSI (io), 103 PS6/SCK (io), 104 PS7/~{SS} (io), 105 IOC0/PT0 (io), 106 IOC1/PT1 (io), 107 IOC2/PT2 (io), 108 IOC3/PT3 (io), 109 IOC4/PT4 (io), 110 IOC5/PT5 (io), 111 IOC6/PT6 (io), 112 IOC7/PT7/PAI (io)

## MC68HC912B32CFU8
designator U?
16-Bit Microcontroller; PackageDocument: rev4.0, Apr-2002; Published: 21-Mar-2003; LatestRevisionDate: 6-Jun-2005; LatestRevisionNote: Stylized 3D Model Added.; DatasheetDocument: 17-Apr-2002; PackageReference: 841B-02; Publisher: Altium Limited; Code_IPC: QFP14X14-80; ComponentLink1Description: Manufacturer Link; ComponentLink1URL: http://www.freescale.com/; ComponentLink2Description: Datasheet; ComponentLink2URL: http://www.freescale.com/files/microcontrollers/doc/data_sheet/M68HC12B.pdf
footprint 841B-02 (QFP; 80 Leads; Body 14 x 14 mm; Pitch 0.65 mm)
3D model MC68HC912-841B-02 (QFP; 80 Leads; Body 14 x 14 mm; Pitch 0.65 mm)
pins: 1 PP5 (io), 2 PP4 (io), 3 PW3/PP3 (io), 4 PW2/PP2 (io), 5 PW1/PP1 (io), 6 PW0/PP0 (io), 7 IOC0/PT0 (io), 8 IOC1/PT1 (io), 9 IOC2/PT2 (io), 10 VDD (power), 11 VSS (power), 12 IOC3/PT3 (io), 13 IOC4/PT4 (io), 14 IOC5/PT5 (io), 15 IOC6/PT6 (io), 16 PAI/IOC7/PT7 (io), 17 SMODN/~{TAGHI}/BKGD (io), 18 ADDR0/DATA0/PB0 (io), 19 ADDR1/DATA1/PB1 (io), 20 ADDR2/DATA2/PB2 (io), 21 ADDR3/DATA3/PB3 (io), 22 ADDR4/DATA4/PB4 (io), 23 ADDR5/DATA5/PB5 (io), 24 ADDR6/DATA6/PB6 (io), 25 ADDR7/DATA7/PB7 (io), 26 ~{DBE}/PE7 (io), 27 MODB/IPIPE1/PE6 (io), 28 MODA/IPIPE0/PE5 (io), 29 ECLK/PE4 (io), 30 VSSX (power), 31 VDDX (power), 32 ~{RESET} (io), 33 EXTAL (in), 34 XTAL (out), 35 ~{LSTRB}/~{TAGLO}/PE3 (io), 36 R/~{W}/PE2 (io), 37 ~{IRQ}/PE1 (in), 38 ~{XIRQ}/PE0 (in), 39 ADDR8/DATA8/PA0 (io), 40 ADDR9/DATA9/PA1 (io), 41 ADDR10/DATA10/PA2 (io), 42 ADDR11/DATA11/PA3 (io), 43 ADDR12/DATA12/PA4 (io), 44 ADDR13/DATA13/PA5 (io), 45 ADDR14/DATA14/PA6 (io), 46 ADDR15/DATA15/PA7 (io), 47 VDD (power), 48 VSS (power), 49 VRH (in), 50 VRL (in), 51 PAD0/AN0 (in), 52 PAD1/AN1 (in), 53 PAD2/AN2 (in), 54 PAD3/AN3 (in), 55 PAD4/AN4 (in), 56 PAD5/AN5 (in), 57 PAD6/AN6 (in), 58 PAD7/AN7 (in), 59 VDDA (power), 60 VSSA (power), 61 PS0/RXD (io), 62 PS1/TXD (io), 63 PS2 (io), 64 PS3 (io), 65 PS4/SDI/MISO (io), 66 PS5/SDO/MOSI (io), 67 PS6/SCK (io), 68 PS7/~{CS}/~{SS} (io), 69 VFP (power), 70 PLDC6 (io), 71 PLDC5 (io), 72 PLDC4 (io), 73 PLDC3 (io), 74 PLDC2 (io), 75 PLDC1/DLCTX (io), 76 PLDC0/DLCRX (io), 77 VSSX (power), 78 VDDX (power), 79 PP7 (io), 80 PP6 (io)

## MC68HC912B32MFU8
designator U?
16-Bit Microcontroller; PackageDocument: rev4.0, Apr-2002; Published: 21-Mar-2003; LatestRevisionDate: 6-Jun-2005; LatestRevisionNote: Stylized 3D Model Added.; DatasheetDocument: 17-Apr-2002; PackageReference: 841B-02; Publisher: Altium Limited; Code_IPC: QFP14X14-80; ComponentLink1Description: Manufacturer Link; ComponentLink1URL: http://www.freescale.com/; ComponentLink2Description: Datasheet; ComponentLink2URL: http://www.freescale.com/files/microcontrollers/doc/data_sheet/M68HC12B.pdf
footprint 841B-02 (QFP; 80 Leads; Body 14 x 14 mm; Pitch 0.65 mm)
3D model MC68HC912-841B-02 (QFP; 80 Leads; Body 14 x 14 mm; Pitch 0.65 mm)
pins: 1 PP5 (io), 2 PP4 (io), 3 PW3/PP3 (io), 4 PW2/PP2 (io), 5 PW1/PP1 (io), 6 PW0/PP0 (io), 7 IOC0/PT0 (io), 8 IOC1/PT1 (io), 9 IOC2/PT2 (io), 10 VDD (power), 11 VSS (power), 12 IOC3/PT3 (io), 13 IOC4/PT4 (io), 14 IOC5/PT5 (io), 15 IOC6/PT6 (io), 16 PAI/IOC7/PT7 (io), 17 SMODN/~{TAGHI}/BKGD (io), 18 ADDR0/DATA0/PB0 (io), 19 ADDR1/DATA1/PB1 (io), 20 ADDR2/DATA2/PB2 (io), 21 ADDR3/DATA3/PB3 (io), 22 ADDR4/DATA4/PB4 (io), 23 ADDR5/DATA5/PB5 (io), 24 ADDR6/DATA6/PB6 (io), 25 ADDR7/DATA7/PB7 (io), 26 ~{DBE}/PE7 (io), 27 MODB/IPIPE1/PE6 (io), 28 MODA/IPIPE0/PE5 (io), 29 ECLK/PE4 (io), 30 VSSX (power), 31 VDDX (power), 32 ~{RESET} (io), 33 EXTAL (in), 34 XTAL (out), 35 ~{LSTRB}/~{TAGLO}/PE3 (io), 36 R/~{W}/PE2 (io), 37 ~{IRQ}/PE1 (in), 38 ~{XIRQ}/PE0 (in), 39 ADDR8/DATA8/PA0 (io), 40 ADDR9/DATA9/PA1 (io), 41 ADDR10/DATA10/PA2 (io), 42 ADDR11/DATA11/PA3 (io), 43 ADDR12/DATA12/PA4 (io), 44 ADDR13/DATA13/PA5 (io), 45 ADDR14/DATA14/PA6 (io), 46 ADDR15/DATA15/PA7 (io), 47 VDD (power), 48 VSS (power), 49 VRH (in), 50 VRL (in), 51 PAD0/AN0 (in), 52 PAD1/AN1 (in), 53 PAD2/AN2 (in), 54 PAD3/AN3 (in), 55 PAD4/AN4 (in), 56 PAD5/AN5 (in), 57 PAD6/AN6 (in), 58 PAD7/AN7 (in), 59 VDDA (power), 60 VSSA (power), 61 PS0/RXD (io), 62 PS1/TXD (io), 63 PS2 (io), 64 PS3 (io), 65 PS4/SDI/MISO (io), 66 PS5/SDO/MOSI (io), 67 PS6/SCK (io), 68 PS7/~{CS}/~{SS} (io), 69 VFP (power), 70 PLDC6 (io), 71 PLDC5 (io), 72 PLDC4 (io), 73 PLDC3 (io), 74 PLDC2 (io), 75 PLDC1/DLCTX (io), 76 PLDC0/DLCRX (io), 77 VSSX (power), 78 VDDX (power), 79 PP7 (io), 80 PP6 (io)

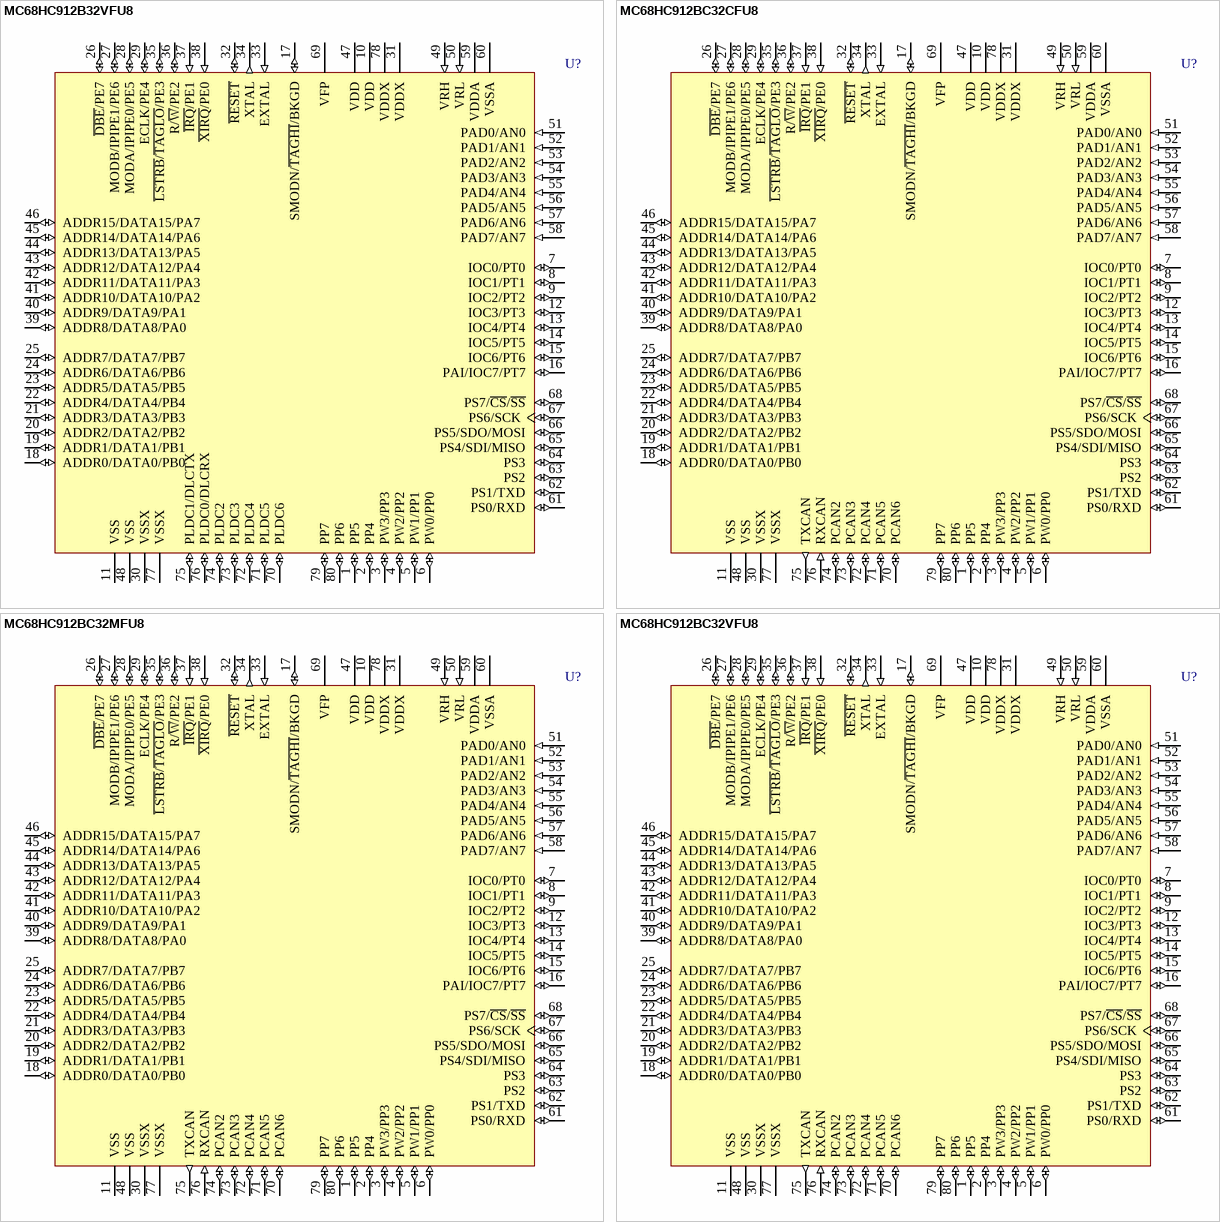
[diagram p44: symbols MC68HC912B32VFU8 to MC68HC912BC32VFU8]

## MC68HC912B32VFU8
designator U?
16-Bit Microcontroller; PackageDocument: rev4.0, Apr-2002; Published: 21-Mar-2003; LatestRevisionDate: 6-Jun-2005; LatestRevisionNote: Stylized 3D Model Added.; DatasheetDocument: 17-Apr-2002; PackageReference: 841B-02; Publisher: Altium Limited; Code_IPC: QFP14X14-80; ComponentLink1Description: Manufacturer Link; ComponentLink1URL: http://www.freescale.com/; ComponentLink2Description: Datasheet; ComponentLink2URL: http://www.freescale.com/files/microcontrollers/doc/data_sheet/M68HC12B.pdf
footprint 841B-02 (QFP; 80 Leads; Body 14 x 14 mm; Pitch 0.65 mm)
3D model MC68HC912-841B-02 (QFP; 80 Leads; Body 14 x 14 mm; Pitch 0.65 mm)
pins: 1 PP5 (io), 2 PP4 (io), 3 PW3/PP3 (io), 4 PW2/PP2 (io), 5 PW1/PP1 (io), 6 PW0/PP0 (io), 7 IOC0/PT0 (io), 8 IOC1/PT1 (io), 9 IOC2/PT2 (io), 10 VDD (power), 11 VSS (power), 12 IOC3/PT3 (io), 13 IOC4/PT4 (io), 14 IOC5/PT5 (io), 15 IOC6/PT6 (io), 16 PAI/IOC7/PT7 (io), 17 SMODN/~{TAGHI}/BKGD (io), 18 ADDR0/DATA0/PB0 (io), 19 ADDR1/DATA1/PB1 (io), 20 ADDR2/DATA2/PB2 (io), 21 ADDR3/DATA3/PB3 (io), 22 ADDR4/DATA4/PB4 (io), 23 ADDR5/DATA5/PB5 (io), 24 ADDR6/DATA6/PB6 (io), 25 ADDR7/DATA7/PB7 (io), 26 ~{DBE}/PE7 (io), 27 MODB/IPIPE1/PE6 (io), 28 MODA/IPIPE0/PE5 (io), 29 ECLK/PE4 (io), 30 VSSX (power), 31 VDDX (power), 32 ~{RESET} (io), 33 EXTAL (in), 34 XTAL (out), 35 ~{LSTRB}/~{TAGLO}/PE3 (io), 36 R/~{W}/PE2 (io), 37 ~{IRQ}/PE1 (in), 38 ~{XIRQ}/PE0 (in), 39 ADDR8/DATA8/PA0 (io), 40 ADDR9/DATA9/PA1 (io), 41 ADDR10/DATA10/PA2 (io), 42 ADDR11/DATA11/PA3 (io), 43 ADDR12/DATA12/PA4 (io), 44 ADDR13/DATA13/PA5 (io), 45 ADDR14/DATA14/PA6 (io), 46 ADDR15/DATA15/PA7 (io), 47 VDD (power), 48 VSS (power), 49 VRH (in), 50 VRL (in), 51 PAD0/AN0 (in), 52 PAD1/AN1 (in), 53 PAD2/AN2 (in), 54 PAD3/AN3 (in), 55 PAD4/AN4 (in), 56 PAD5/AN5 (in), 57 PAD6/AN6 (in), 58 PAD7/AN7 (in), 59 VDDA (power), 60 VSSA (power), 61 PS0/RXD (io), 62 PS1/TXD (io), 63 PS2 (io), 64 PS3 (io), 65 PS4/SDI/MISO (io), 66 PS5/SDO/MOSI (io), 67 PS6/SCK (io), 68 PS7/~{CS}/~{SS} (io), 69 VFP (power), 70 PLDC6 (io), 71 PLDC5 (io), 72 PLDC4 (io), 73 PLDC3 (io), 74 PLDC2 (io), 75 PLDC1/DLCTX (io), 76 PLDC0/DLCRX (io), 77 VSSX (power), 78 VDDX (power), 79 PP7 (io), 80 PP6 (io)

## MC68HC912BC32CFU8
designator U?
16-Bit Microcontroller; PackageDocument: rev4.0, Apr-2002; Published: 21-Mar-2003; LatestRevisionDate: 6-Jun-2005; LatestRevisionNote: Stylized 3D Model Added.; DatasheetDocument: 17-Apr-2002; PackageReference: 841B-02; Publisher: Altium Limited; Code_IPC: QFP14X14-80; ComponentLink1Description: Manufacturer Link; ComponentLink1URL: http://www.freescale.com/; ComponentLink2Description: Datasheet; ComponentLink2URL: http://www.freescale.com/files/microcontrollers/doc/data_sheet/M68HC12B.pdf
footprint 841B-02 (QFP; 80 Leads; Body 14 x 14 mm; Pitch 0.65 mm)
3D model MC68HC912-841B-02 (QFP; 80 Leads; Body 14 x 14 mm; Pitch 0.65 mm)
pins: 1 PP5 (io), 2 PP4 (io), 3 PW3/PP3 (io), 4 PW2/PP2 (io), 5 PW1/PP1 (io), 6 PW0/PP0 (io), 7 IOC0/PT0 (io), 8 IOC1/PT1 (io), 9 IOC2/PT2 (io), 10 VDD (power), 11 VSS (power), 12 IOC3/PT3 (io), 13 IOC4/PT4 (io), 14 IOC5/PT5 (io), 15 IOC6/PT6 (io), 16 PAI/IOC7/PT7 (io), 17 SMODN/~{TAGHI}/BKGD (io), 18 ADDR0/DATA0/PB0 (io), 19 ADDR1/DATA1/PB1 (io), 20 ADDR2/DATA2/PB2 (io), 21 ADDR3/DATA3/PB3 (io), 22 ADDR4/DATA4/PB4 (io), 23 ADDR5/DATA5/PB5 (io), 24 ADDR6/DATA6/PB6 (io), 25 ADDR7/DATA7/PB7 (io), 26 ~{DBE}/PE7 (io), 27 MODB/IPIPE1/PE6 (io), 28 MODA/IPIPE0/PE5 (io), 29 ECLK/PE4 (io), 30 VSSX (power), 31 VDDX (power), 32 ~{RESET} (io), 33 EXTAL (in), 34 XTAL (out), 35 ~{LSTRB}/~{TAGLO}/PE3 (io), 36 R/~{W}/PE2 (io), 37 ~{IRQ}/PE1 (in), 38 ~{XIRQ}/PE0 (in), 39 ADDR8/DATA8/PA0 (io), 40 ADDR9/DATA9/PA1 (io), 41 ADDR10/DATA10/PA2 (io), 42 ADDR11/DATA11/PA3 (io), 43 ADDR12/DATA12/PA4 (io), 44 ADDR13/DATA13/PA5 (io), 45 ADDR14/DATA14/PA6 (io), 46 ADDR15/DATA15/PA7 (io), 47 VDD (power), 48 VSS (power), 49 VRH (in), 50 VRL (in), 51 PAD0/AN0 (in), 52 PAD1/AN1 (in), 53 PAD2/AN2 (in), 54 PAD3/AN3 (in), 55 PAD4/AN4 (in), 56 PAD5/AN5 (in), 57 PAD6/AN6 (in), 58 PAD7/AN7 (in), 59 VDDA (power), 60 VSSA (power), 61 PS0/RXD (io), 62 PS1/TXD (io), 63 PS2 (io), 64 PS3 (io), 65 PS4/SDI/MISO (io), 66 PS5/SDO/MOSI (io), 67 PS6/SCK (io), 68 PS7/~{CS}/~{SS} (io), 69 VFP (power), 70 PCAN6 (io), 71 PCAN5 (io), 72 PCAN4 (io), 73 PCAN3 (io), 74 PCAN2 (io), 75 TXCAN (out), 76 RXCAN (in), 77 VSSX (power), 78 VDDX (power), 79 PP7 (io), 80 PP6 (io)

## MC68HC912BC32MFU8
designator U?
16-Bit Microcontroller; PackageDocument: rev4.0, Apr-2002; Published: 21-Mar-2003; LatestRevisionDate: 6-Jun-2005; LatestRevisionNote: Stylized 3D Model Added.; DatasheetDocument: 17-Apr-2002; PackageReference: 841B-02; Publisher: Altium Limited; Code_IPC: QFP14X14-80; ComponentLink1Description: Manufacturer Link; ComponentLink1URL: http://www.freescale.com/; ComponentLink2Description: Datasheet; ComponentLink2URL: http://www.freescale.com/files/microcontrollers/doc/data_sheet/M68HC12B.pdf
footprint 841B-02 (QFP; 80 Leads; Body 14 x 14 mm; Pitch 0.65 mm)
3D model MC68HC912-841B-02 (QFP; 80 Leads; Body 14 x 14 mm; Pitch 0.65 mm)
pins: 1 PP5 (io), 2 PP4 (io), 3 PW3/PP3 (io), 4 PW2/PP2 (io), 5 PW1/PP1 (io), 6 PW0/PP0 (io), 7 IOC0/PT0 (io), 8 IOC1/PT1 (io), 9 IOC2/PT2 (io), 10 VDD (power), 11 VSS (power), 12 IOC3/PT3 (io), 13 IOC4/PT4 (io), 14 IOC5/PT5 (io), 15 IOC6/PT6 (io), 16 PAI/IOC7/PT7 (io), 17 SMODN/~{TAGHI}/BKGD (io), 18 ADDR0/DATA0/PB0 (io), 19 ADDR1/DATA1/PB1 (io), 20 ADDR2/DATA2/PB2 (io), 21 ADDR3/DATA3/PB3 (io), 22 ADDR4/DATA4/PB4 (io), 23 ADDR5/DATA5/PB5 (io), 24 ADDR6/DATA6/PB6 (io), 25 ADDR7/DATA7/PB7 (io), 26 ~{DBE}/PE7 (io), 27 MODB/IPIPE1/PE6 (io), 28 MODA/IPIPE0/PE5 (io), 29 ECLK/PE4 (io), 30 VSSX (power), 31 VDDX (power), 32 ~{RESET} (io), 33 EXTAL (in), 34 XTAL (out), 35 ~{LSTRB}/~{TAGLO}/PE3 (io), 36 R/~{W}/PE2 (io), 37 ~{IRQ}/PE1 (in), 38 ~{XIRQ}/PE0 (in), 39 ADDR8/DATA8/PA0 (io), 40 ADDR9/DATA9/PA1 (io), 41 ADDR10/DATA10/PA2 (io), 42 ADDR11/DATA11/PA3 (io), 43 ADDR12/DATA12/PA4 (io), 44 ADDR13/DATA13/PA5 (io), 45 ADDR14/DATA14/PA6 (io), 46 ADDR15/DATA15/PA7 (io), 47 VDD (power), 48 VSS (power), 49 VRH (in), 50 VRL (in), 51 PAD0/AN0 (in), 52 PAD1/AN1 (in), 53 PAD2/AN2 (in), 54 PAD3/AN3 (in), 55 PAD4/AN4 (in), 56 PAD5/AN5 (in), 57 PAD6/AN6 (in), 58 PAD7/AN7 (in), 59 VDDA (power), 60 VSSA (power), 61 PS0/RXD (io), 62 PS1/TXD (io), 63 PS2 (io), 64 PS3 (io), 65 PS4/SDI/MISO (io), 66 PS5/SDO/MOSI (io), 67 PS6/SCK (io), 68 PS7/~{CS}/~{SS} (io), 69 VFP (power), 70 PCAN6 (io), 71 PCAN5 (io), 72 PCAN4 (io), 73 PCAN3 (io), 74 PCAN2 (io), 75 TXCAN (out), 76 RXCAN (in), 77 VSSX (power), 78 VDDX (power), 79 PP7 (io), 80 PP6 (io)

## MC68HC912BC32VFU8
designator U?
16-Bit Microcontroller; PackageDocument: rev4.0, Apr-2002; Published: 21-Mar-2003; LatestRevisionDate: 6-Jun-2005; LatestRevisionNote: Stylized 3D Model Added.; DatasheetDocument: 17-Apr-2002; PackageReference: 841B-02; Publisher: Altium Limited; Code_IPC: QFP14X14-80; ComponentLink1Description: Manufacturer Link; ComponentLink1URL: http://www.freescale.com/; ComponentLink2Description: Datasheet; ComponentLink2URL: http://www.freescale.com/files/microcontrollers/doc/data_sheet/M68HC12B.pdf
footprint 841B-02 (QFP; 80 Leads; Body 14 x 14 mm; Pitch 0.65 mm)
3D model MC68HC912-841B-02 (QFP; 80 Leads; Body 14 x 14 mm; Pitch 0.65 mm)
pins: 1 PP5 (io), 2 PP4 (io), 3 PW3/PP3 (io), 4 PW2/PP2 (io), 5 PW1/PP1 (io), 6 PW0/PP0 (io), 7 IOC0/PT0 (io), 8 IOC1/PT1 (io), 9 IOC2/PT2 (io), 10 VDD (power), 11 VSS (power), 12 IOC3/PT3 (io), 13 IOC4/PT4 (io), 14 IOC5/PT5 (io), 15 IOC6/PT6 (io), 16 PAI/IOC7/PT7 (io), 17 SMODN/~{TAGHI}/BKGD (io), 18 ADDR0/DATA0/PB0 (io), 19 ADDR1/DATA1/PB1 (io), 20 ADDR2/DATA2/PB2 (io), 21 ADDR3/DATA3/PB3 (io), 22 ADDR4/DATA4/PB4 (io), 23 ADDR5/DATA5/PB5 (io), 24 ADDR6/DATA6/PB6 (io), 25 ADDR7/DATA7/PB7 (io), 26 ~{DBE}/PE7 (io), 27 MODB/IPIPE1/PE6 (io), 28 MODA/IPIPE0/PE5 (io), 29 ECLK/PE4 (io), 30 VSSX (power), 31 VDDX (power), 32 ~{RESET} (io), 33 EXTAL (in), 34 XTAL (out), 35 ~{LSTRB}/~{TAGLO}/PE3 (io), 36 R/~{W}/PE2 (io), 37 ~{IRQ}/PE1 (in), 38 ~{XIRQ}/PE0 (in), 39 ADDR8/DATA8/PA0 (io), 40 ADDR9/DATA9/PA1 (io), 41 ADDR10/DATA10/PA2 (io), 42 ADDR11/DATA11/PA3 (io), 43 ADDR12/DATA12/PA4 (io), 44 ADDR13/DATA13/PA5 (io), 45 ADDR14/DATA14/PA6 (io), 46 ADDR15/DATA15/PA7 (io), 47 VDD (power), 48 VSS (power), 49 VRH (in), 50 VRL (in), 51 PAD0/AN0 (in), 52 PAD1/AN1 (in), 53 PAD2/AN2 (in), 54 PAD3/AN3 (in), 55 PAD4/AN4 (in), 56 PAD5/AN5 (in), 57 PAD6/AN6 (in), 58 PAD7/AN7 (in), 59 VDDA (power), 60 VSSA (power), 61 PS0/RXD (io), 62 PS1/TXD (io), 63 PS2 (io), 64 PS3 (io), 65 PS4/SDI/MISO (io), 66 PS5/SDO/MOSI (io), 67 PS6/SCK (io), 68 PS7/~{CS}/~{SS} (io), 69 VFP (power), 70 PCAN6 (io), 71 PCAN5 (io), 72 PCAN4 (io), 73 PCAN3 (io), 74 PCAN2 (io), 75 TXCAN (out), 76 RXCAN (in), 77 VSSX (power), 78 VDDX (power), 79 PP7 (io), 80 PP6 (io)

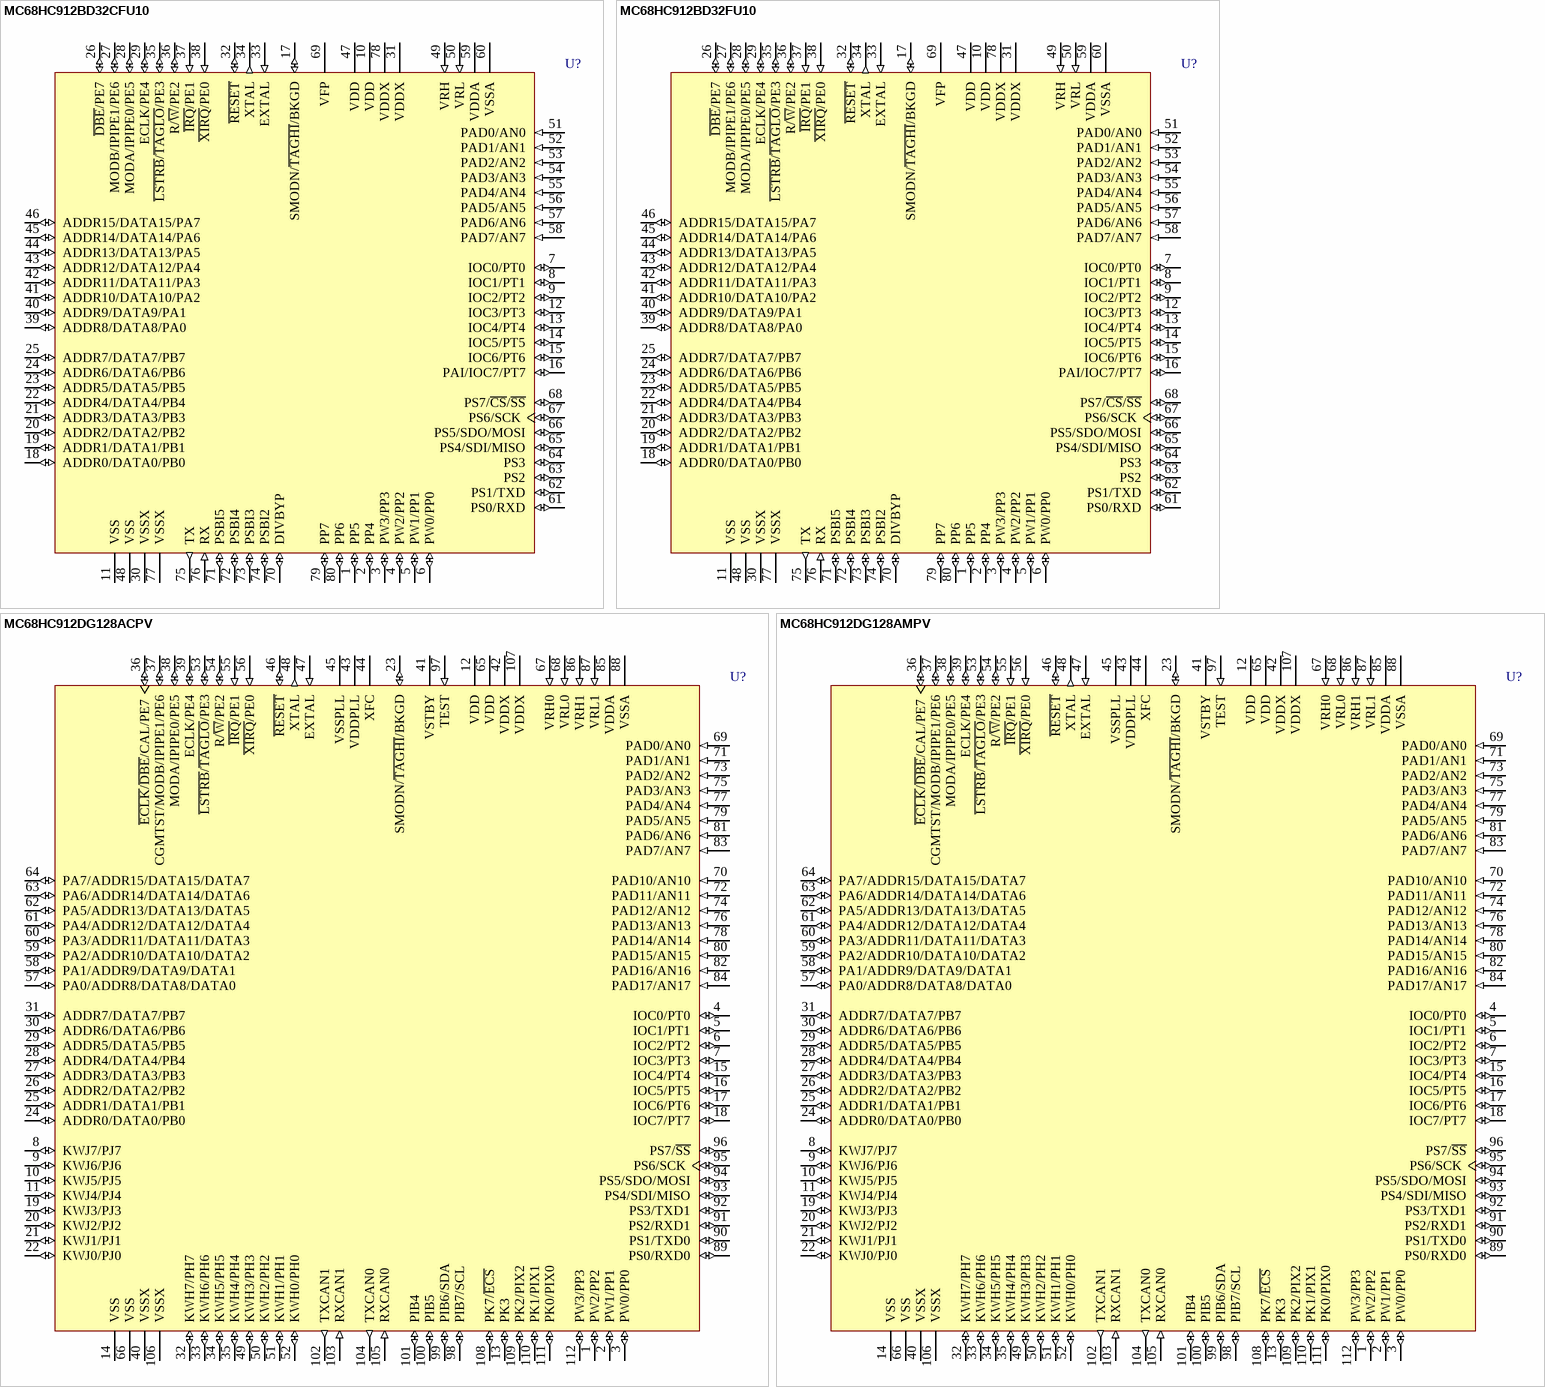
[diagram p45: symbols MC68HC912BD32CFU10 to MC68HC912DG128AMPV]

## MC68HC912BD32CFU10
designator U?
16-Bit Microcontroller; PackageDocument: rev4.0, Apr-2002; Note: Not recommended for new designs.; Published: 21-Mar-2003; LatestRevisionDate: 6-Jun-2005; LatestRevisionNote: Stylized 3D Model Added.; DatasheetDocument: 23-Oct-2000; PackageReference: 841B-02; Publisher: Altium Limited; Code_IPC: QFP14X14-80; ComponentLink1Description: Manufacturer Link; ComponentLink1URL: http://www.freescale.com/; ComponentLink2Description: Datasheet; ComponentLink2URL: http://www.freescale.com/files/microcontrollers/doc/data_sheet/MC68HC912BD32.pdf
footprint 841B-02 (QFP; 80 Leads; Body 14 x 14 mm; Pitch 0.65 mm)
3D model MC68HC912-841B-02 (QFP; 80 Leads; Body 14 x 14 mm; Pitch 0.65 mm)
pins: 1 PP5 (io), 2 PP4 (io), 3 PW3/PP3 (io), 4 PW2/PP2 (io), 5 PW1/PP1 (io), 6 PW0/PP0 (io), 7 IOC0/PT0 (io), 8 IOC1/PT1 (io), 9 IOC2/PT2 (io), 10 VDD (power), 11 VSS (power), 12 IOC3/PT3 (io), 13 IOC4/PT4 (io), 14 IOC5/PT5 (io), 15 IOC6/PT6 (io), 16 PAI/IOC7/PT7 (io), 17 SMODN/~{TAGHI}/BKGD (io), 18 ADDR0/DATA0/PB0 (io), 19 ADDR1/DATA1/PB1 (io), 20 ADDR2/DATA2/PB2 (io), 21 ADDR3/DATA3/PB3 (io), 22 ADDR4/DATA4/PB4 (io), 23 ADDR5/DATA5/PB5 (io), 24 ADDR6/DATA6/PB6 (io), 25 ADDR7/DATA7/PB7 (io), 26 ~{DBE}/PE7 (io), 27 MODB/IPIPE1/PE6 (io), 28 MODA/IPIPE0/PE5 (io), 29 ECLK/PE4 (io), 30 VSSX (power), 31 VDDX (power), 32 ~{RESET} (io), 33 EXTAL (in), 34 XTAL (out), 35 ~{LSTRB}/~{TAGLO}/PE3 (io), 36 R/~{W}/PE2 (io), 37 ~{IRQ}/PE1 (in), 38 ~{XIRQ}/PE0 (in), 39 ADDR8/DATA8/PA0 (io), 40 ADDR9/DATA9/PA1 (io), 41 ADDR10/DATA10/PA2 (io), 42 ADDR11/DATA11/PA3 (io), 43 ADDR12/DATA12/PA4 (io), 44 ADDR13/DATA13/PA5 (io), 45 ADDR14/DATA14/PA6 (io), 46 ADDR15/DATA15/PA7 (io), 47 VDD (power), 48 VSS (power), 49 VRH (in), 50 VRL (in), 51 PAD0/AN0 (in), 52 PAD1/AN1 (in), 53 PAD2/AN2 (in), 54 PAD3/AN3 (in), 55 PAD4/AN4 (in), 56 PAD5/AN5 (in), 57 PAD6/AN6 (in), 58 PAD7/AN7 (in), 59 VDDA (power), 60 VSSA (power), 61 PS0/RXD (io), 62 PS1/TXD (io), 63 PS2 (io), 64 PS3 (io), 65 PS4/SDI/MISO (io), 66 PS5/SDO/MOSI (io), 67 PS6/SCK (io), 68 PS7/~{CS}/~{SS} (io), 69 VFP (power), 70 DIVBYP (io), 71 PSBI5 (io), 72 PSBI4 (io), 73 PSBI3 (io), 74 PSBI2 (io), 75 TX (out), 76 RX (in), 77 VSSX (power), 78 VDDX (power), 79 PP7 (io), 80 PP6 (io)

## MC68HC912BD32FU10
designator U?
16-Bit Microcontroller; PackageDocument: rev4.0, Apr-2002; Note: Not recommended for new designs.; Published: 21-Mar-2003; LatestRevisionDate: 6-Jun-2005; LatestRevisionNote: Stylized 3D Model Added.; DatasheetDocument: 23-Oct-2000; PackageReference: 841B-02; Publisher: Altium Limited; Code_IPC: QFP14X14-80; ComponentLink1Description: Manufacturer Link; ComponentLink1URL: http://www.freescale.com/; ComponentLink2Description: Datasheet; ComponentLink2URL: http://www.freescale.com/files/microcontrollers/doc/data_sheet/MC68HC912BD32.pdf
footprint 841B-02 (QFP; 80 Leads; Body 14 x 14 mm; Pitch 0.65 mm)
3D model MC68HC912-841B-02 (QFP; 80 Leads; Body 14 x 14 mm; Pitch 0.65 mm)
pins: 1 PP5 (io), 2 PP4 (io), 3 PW3/PP3 (io), 4 PW2/PP2 (io), 5 PW1/PP1 (io), 6 PW0/PP0 (io), 7 IOC0/PT0 (io), 8 IOC1/PT1 (io), 9 IOC2/PT2 (io), 10 VDD (power), 11 VSS (power), 12 IOC3/PT3 (io), 13 IOC4/PT4 (io), 14 IOC5/PT5 (io), 15 IOC6/PT6 (io), 16 PAI/IOC7/PT7 (io), 17 SMODN/~{TAGHI}/BKGD (io), 18 ADDR0/DATA0/PB0 (io), 19 ADDR1/DATA1/PB1 (io), 20 ADDR2/DATA2/PB2 (io), 21 ADDR3/DATA3/PB3 (io), 22 ADDR4/DATA4/PB4 (io), 23 ADDR5/DATA5/PB5 (io), 24 ADDR6/DATA6/PB6 (io), 25 ADDR7/DATA7/PB7 (io), 26 ~{DBE}/PE7 (io), 27 MODB/IPIPE1/PE6 (io), 28 MODA/IPIPE0/PE5 (io), 29 ECLK/PE4 (io), 30 VSSX (power), 31 VDDX (power), 32 ~{RESET} (io), 33 EXTAL (in), 34 XTAL (out), 35 ~{LSTRB}/~{TAGLO}/PE3 (io), 36 R/~{W}/PE2 (io), 37 ~{IRQ}/PE1 (in), 38 ~{XIRQ}/PE0 (in), 39 ADDR8/DATA8/PA0 (io), 40 ADDR9/DATA9/PA1 (io), 41 ADDR10/DATA10/PA2 (io), 42 ADDR11/DATA11/PA3 (io), 43 ADDR12/DATA12/PA4 (io), 44 ADDR13/DATA13/PA5 (io), 45 ADDR14/DATA14/PA6 (io), 46 ADDR15/DATA15/PA7 (io), 47 VDD (power), 48 VSS (power), 49 VRH (in), 50 VRL (in), 51 PAD0/AN0 (in), 52 PAD1/AN1 (in), 53 PAD2/AN2 (in), 54 PAD3/AN3 (in), 55 PAD4/AN4 (in), 56 PAD5/AN5 (in), 57 PAD6/AN6 (in), 58 PAD7/AN7 (in), 59 VDDA (power), 60 VSSA (power), 61 PS0/RXD (io), 62 PS1/TXD (io), 63 PS2 (io), 64 PS3 (io), 65 PS4/SDI/MISO (io), 66 PS5/SDO/MOSI (io), 67 PS6/SCK (io), 68 PS7/~{CS}/~{SS} (io), 69 VFP (power), 70 DIVBYP (io), 71 PSBI5 (io), 72 PSBI4 (io), 73 PSBI3 (io), 74 PSBI2 (io), 75 TX (out), 76 RX (in), 77 VSSX (power), 78 VDDX (power), 79 PP7 (io), 80 PP6 (io)

## MC68HC912DG128ACPV
designator U?
16-Bit Microcontroller; PackageDocument: rev3.1, Nov-2000; DoNotConnect: Leave Pin 97 (TEST) Unconnected.; Published: 21-Mar-2003; LatestRevisionDate: 6-Jun-2005; LatestRevisionNote: Stylized 3D Model Added.; DatasheetDocument: 12-Jun-2001; PackageReference: 987-01; Publisher: Altium Limited; ComponentLink1Description: Manufacturer Link; ComponentLink1URL: http://www.freescale.com/
footprint 987-01 (QFP; 112 Leads; Body 20 x 20 mm; Pitch 0.65 mm)
3D model MC68HC912-987-01 (QFP; 112 Leads; Body 20 x 20 mm; Pitch 0.65 mm)
pins: 1 PW2/PP2 (io), 2 PW1/PP1 (io), 3 PW0/PP0 (io), 4 IOC0/PT0 (io), 5 IOC1/PT1 (io), 6 IOC2/PT2 (io), 7 IOC3/PT3 (io), 8 KWJ7/PJ7 (io), 9 KWJ6/PJ6 (io), 10 KWJ5/PJ5 (io), 11 KWJ4/PJ4 (io), 12 VDD (power), 13 PK3 (io), 14 VSS (power), 15 IOC4/PT4 (io), 16 IOC5/PT5 (io), 17 IOC6/PT6 (io), 18 IOC7/PT7 (io), 19 KWJ3/PJ3 (io), 20 KWJ2/PJ2 (io), 21 KWJ1/PJ1 (io), 22 KWJ0/PJ0 (io), 23 SMODN/~{TAGHI}/BKGD (io), 24 ADDR0/DATA0/PB0 (io), 25 ADDR1/DATA1/PB1 (io), 26 ADDR2/DATA2/PB2 (io), 27 ADDR3/DATA3/PB3 (io), 28 ADDR4/DATA4/PB4 (io), 29 ADDR5/DATA5/PB5 (io), 30 ADDR6/DATA6/PB6 (io), 31 ADDR7/DATA7/PB7 (io), 32 KWH7/PH7 (io), 33 KWH6/PH6 (io), 34 KWH5/PH5 (io), 35 KWH4/PH4 (io), 36 ~{ECLK}/~{DBE}/CAL/PE7 (io), 37 CGMTST/MODB/IPIPE1/PE6 (io), 38 MODA/IPIPE0/PE5 (io), 39 ECLK/PE4 (io), 40 VSSX (power), 41 VSTBY (power), 42 VDDX (power), 43 VDDPLL (power), 44 XFC, 45 VSSPLL (power), 46 ~{RESET} (io), 47 EXTAL (in), 48 XTAL (out), 49 KWH3/PH3 (io), 50 KWH2/PH2 (io), 51 KWH1/PH1 (io), 52 KWH0/PH0 (io), 53 ~{LSTRB}/~{TAGLO}/PE3 (io), 54 R/~{W}/PE2 (io), 55 ~{IRQ}/PE1 (in), 56 ~{XIRQ}/PE0 (in), 57 PA0/ADDR8/DATA8/DATA0 (io), 58 PA1/ADDR9/DATA9/DATA1 (io), 59 PA2/ADDR10/DATA10/DATA2 (io), 60 PA3/ADDR11/DATA11/DATA3 (io), 61 PA4/ADDR12/DATA12/DATA4 (io), 62 PA5/ADDR13/DATA13/DATA5 (io), 63 PA6/ADDR14/DATA14/DATA6 (io), 64 PA7/ADDR15/DATA15/DATA7 (io), 65 VDD (power), 66 VSS (power), 67 VRH0 (in), 68 VRL0 (in), 69 PAD0/AN0 (in), 70 PAD10/AN10 (in), 71 PAD1/AN1 (in), 72 PAD11/AN11 (in), 73 PAD2/AN2 (in), 74 PAD12/AN12 (in), 75 PAD3/AN3 (in), 76 PAD13/AN13 (in), 77 PAD4/AN4 (in), 78 PAD14/AN14 (in), 79 PAD5/AN5 (in), 80 PAD15/AN15 (in), 81 PAD6/AN6 (in), 82 PAD16/AN16 (in), 83 PAD7/AN7 (in), 84 PAD17/AN17 (in), 85 VDDA (power), 86 VRH1 (in), 87 VRL1 (in), 88 VSSA (power), 89 PS0/RXD0 (io), 90 PS1/TXD0 (io), 91 PS2/RXD1 (io), 92 PS3/TXD1 (io), 93 PS4/SDI/MISO (io), 94 PS5/SDO/MOSI (io), 95 PS6/SCK (io), 96 PS7/~{SS} (io), 97 TEST (in), 98 PIB7/SCL (io), 99 PIB6/SDA (io), 100 PIB5 (io), 101 PIB4 (io), 102 TXCAN1 (out), 103 RXCAN1 (in), 104 TXCAN0 (out), 105 RXCAN0 (in), 106 VSSX (power), 107 VDDX (power), 108 PK7/~{ECS} (io), 109 PK2/PIX2 (io), 110 PK1/PIX1 (io), 111 PK0/PIX0 (io), 112 PW3/PP3 (io)

## MC68HC912DG128AMPV
designator U?
16-Bit Microcontroller; PackageDocument: rev3.1, Nov-2000; DoNotConnect: Leave Pin 97 (TEST) Unconnected.; Published: 21-Mar-2003; LatestRevisionDate: 6-Jun-2005; LatestRevisionNote: Stylized 3D Model Added.; DatasheetDocument: 12-Jun-2001; PackageReference: 987-01; Publisher: Altium Limited; ComponentLink1Description: Manufacturer Link; ComponentLink1URL: http://www.freescale.com/
footprint 987-01 (QFP; 112 Leads; Body 20 x 20 mm; Pitch 0.65 mm)
3D model MC68HC912-987-01 (QFP; 112 Leads; Body 20 x 20 mm; Pitch 0.65 mm)
pins: 1 PW2/PP2 (io), 2 PW1/PP1 (io), 3 PW0/PP0 (io), 4 IOC0/PT0 (io), 5 IOC1/PT1 (io), 6 IOC2/PT2 (io), 7 IOC3/PT3 (io), 8 KWJ7/PJ7 (io), 9 KWJ6/PJ6 (io), 10 KWJ5/PJ5 (io), 11 KWJ4/PJ4 (io), 12 VDD (power), 13 PK3 (io), 14 VSS (power), 15 IOC4/PT4 (io), 16 IOC5/PT5 (io), 17 IOC6/PT6 (io), 18 IOC7/PT7 (io), 19 KWJ3/PJ3 (io), 20 KWJ2/PJ2 (io), 21 KWJ1/PJ1 (io), 22 KWJ0/PJ0 (io), 23 SMODN/~{TAGHI}/BKGD (io), 24 ADDR0/DATA0/PB0 (io), 25 ADDR1/DATA1/PB1 (io), 26 ADDR2/DATA2/PB2 (io), 27 ADDR3/DATA3/PB3 (io), 28 ADDR4/DATA4/PB4 (io), 29 ADDR5/DATA5/PB5 (io), 30 ADDR6/DATA6/PB6 (io), 31 ADDR7/DATA7/PB7 (io), 32 KWH7/PH7 (io), 33 KWH6/PH6 (io), 34 KWH5/PH5 (io), 35 KWH4/PH4 (io), 36 ~{ECLK}/~{DBE}/CAL/PE7 (io), 37 CGMTST/MODB/IPIPE1/PE6 (io), 38 MODA/IPIPE0/PE5 (io), 39 ECLK/PE4 (io), 40 VSSX (power), 41 VSTBY (power), 42 VDDX (power), 43 VDDPLL (power), 44 XFC, 45 VSSPLL (power), 46 ~{RESET} (io), 47 EXTAL (in), 48 XTAL (out), 49 KWH3/PH3 (io), 50 KWH2/PH2 (io), 51 KWH1/PH1 (io), 52 KWH0/PH0 (io), 53 ~{LSTRB}/~{TAGLO}/PE3 (io), 54 R/~{W}/PE2 (io), 55 ~{IRQ}/PE1 (in), 56 ~{XIRQ}/PE0 (in), 57 PA0/ADDR8/DATA8/DATA0 (io), 58 PA1/ADDR9/DATA9/DATA1 (io), 59 PA2/ADDR10/DATA10/DATA2 (io), 60 PA3/ADDR11/DATA11/DATA3 (io), 61 PA4/ADDR12/DATA12/DATA4 (io), 62 PA5/ADDR13/DATA13/DATA5 (io), 63 PA6/ADDR14/DATA14/DATA6 (io), 64 PA7/ADDR15/DATA15/DATA7 (io), 65 VDD (power), 66 VSS (power), 67 VRH0 (in), 68 VRL0 (in), 69 PAD0/AN0 (in), 70 PAD10/AN10 (in), 71 PAD1/AN1 (in), 72 PAD11/AN11 (in), 73 PAD2/AN2 (in), 74 PAD12/AN12 (in), 75 PAD3/AN3 (in), 76 PAD13/AN13 (in), 77 PAD4/AN4 (in), 78 PAD14/AN14 (in), 79 PAD5/AN5 (in), 80 PAD15/AN15 (in), 81 PAD6/AN6 (in), 82 PAD16/AN16 (in), 83 PAD7/AN7 (in), 84 PAD17/AN17 (in), 85 VDDA (power), 86 VRH1 (in), 87 VRL1 (in), 88 VSSA (power), 89 PS0/RXD0 (io), 90 PS1/TXD0 (io), 91 PS2/RXD1 (io), 92 PS3/TXD1 (io), 93 PS4/SDI/MISO (io), 94 PS5/SDO/MOSI (io), 95 PS6/SCK (io), 96 PS7/~{SS} (io), 97 TEST (in), 98 PIB7/SCL (io), 99 PIB6/SDA (io), 100 PIB5 (io), 101 PIB4 (io), 102 TXCAN1 (out), 103 RXCAN1 (in), 104 TXCAN0 (out), 105 RXCAN0 (in), 106 VSSX (power), 107 VDDX (power), 108 PK7/~{ECS} (io), 109 PK2/PIX2 (io), 110 PK1/PIX1 (io), 111 PK0/PIX0 (io), 112 PW3/PP3 (io)

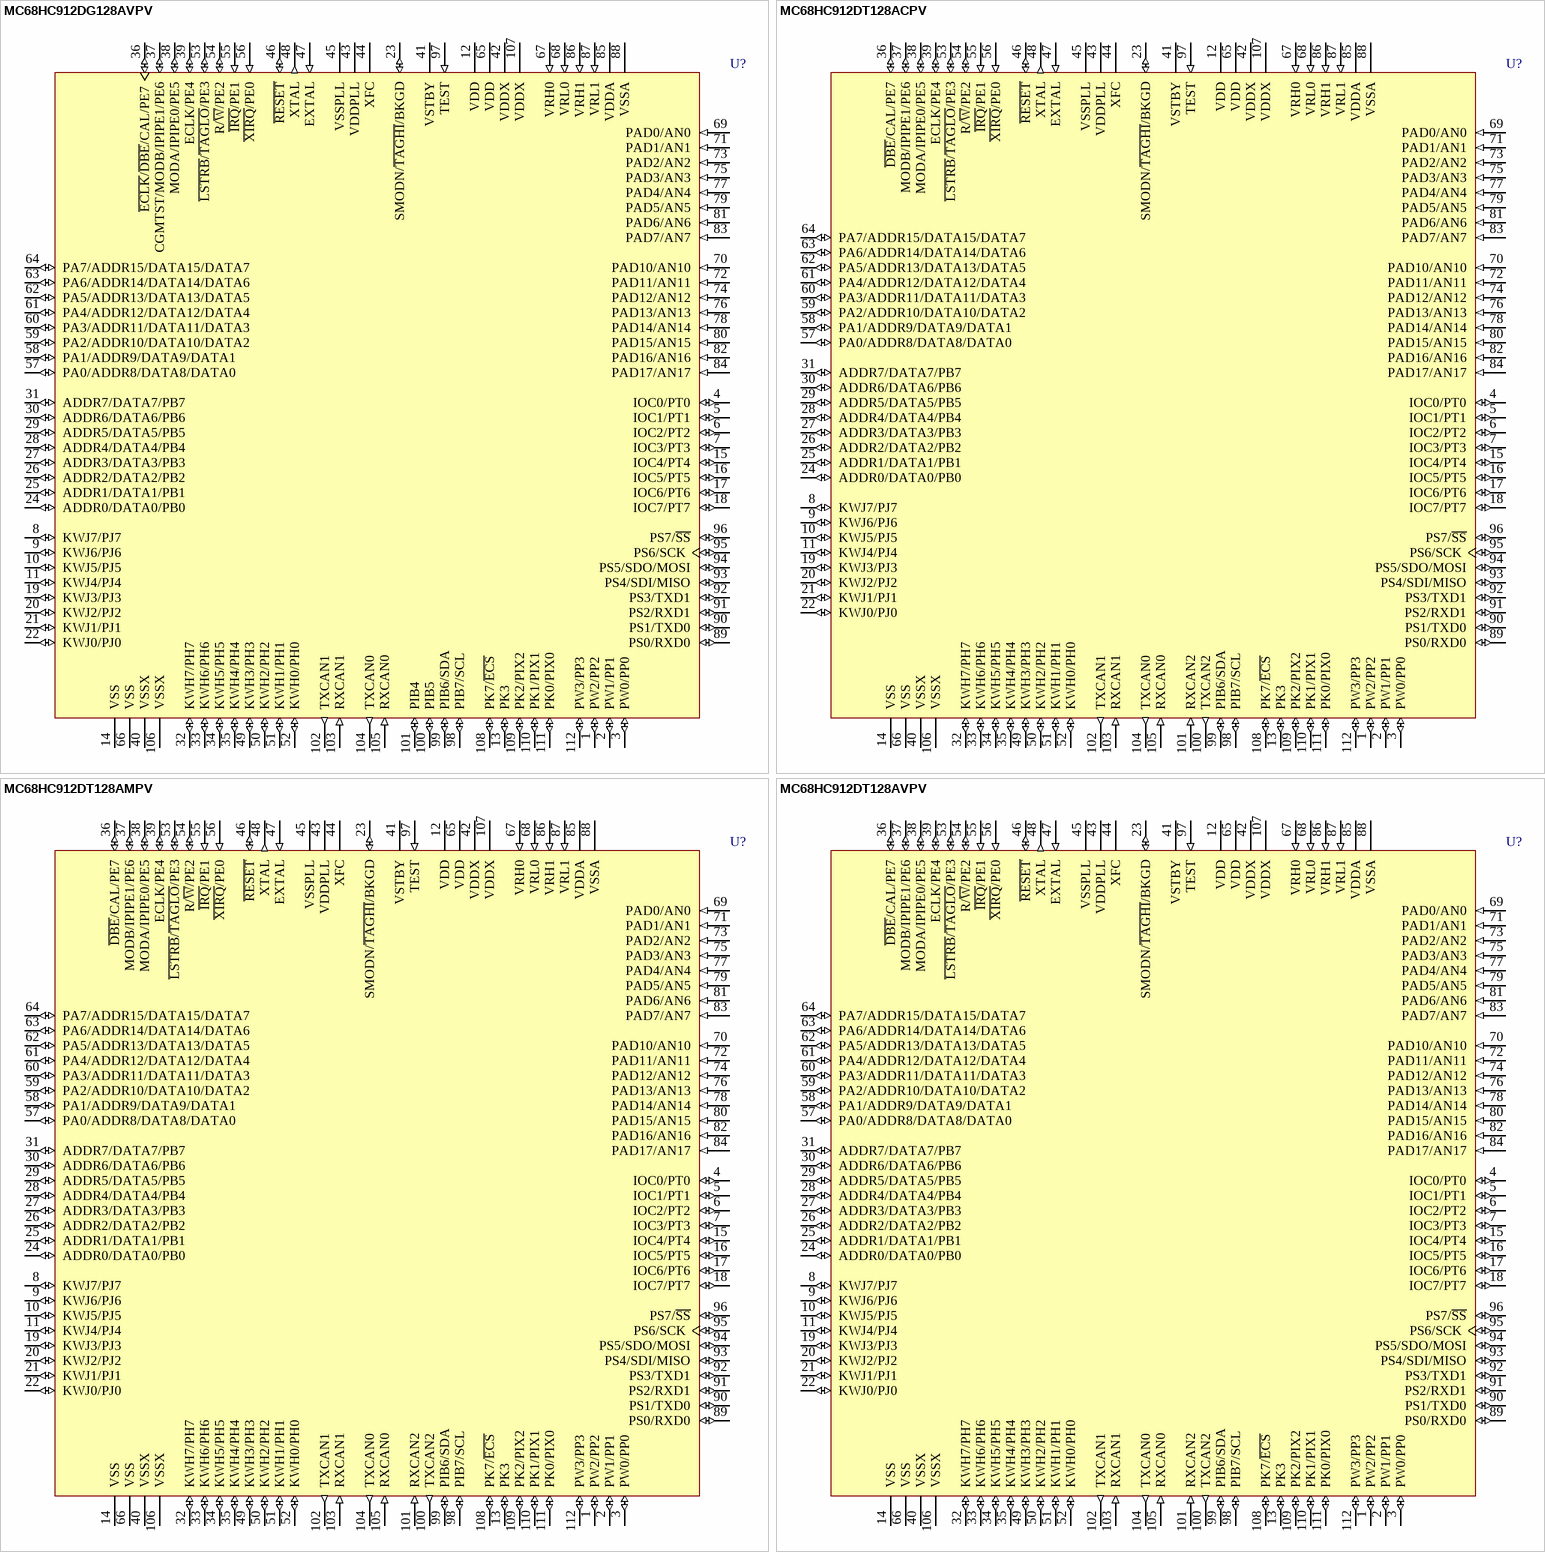
[diagram p46: symbols MC68HC912DG128AVPV to MC68HC912DT128AVPV]

## MC68HC912DG128AVPV
designator U?
16-Bit Microcontroller; PackageDocument: rev3.1, Nov-2000; DoNotConnect: Leave Pin 97 (TEST) Unconnected.; Published: 21-Mar-2003; LatestRevisionDate: 6-Jun-2005; LatestRevisionNote: Stylized 3D Model Added.; DatasheetDocument: 12-Jun-2001; PackageReference: 987-01; Publisher: Altium Limited; ComponentLink1Description: Manufacturer Link; ComponentLink1URL: http://www.freescale.com/
footprint 987-01 (QFP; 112 Leads; Body 20 x 20 mm; Pitch 0.65 mm)
3D model MC68HC912-987-01 (QFP; 112 Leads; Body 20 x 20 mm; Pitch 0.65 mm)
pins: 1 PW2/PP2 (io), 2 PW1/PP1 (io), 3 PW0/PP0 (io), 4 IOC0/PT0 (io), 5 IOC1/PT1 (io), 6 IOC2/PT2 (io), 7 IOC3/PT3 (io), 8 KWJ7/PJ7 (io), 9 KWJ6/PJ6 (io), 10 KWJ5/PJ5 (io), 11 KWJ4/PJ4 (io), 12 VDD (power), 13 PK3 (io), 14 VSS (power), 15 IOC4/PT4 (io), 16 IOC5/PT5 (io), 17 IOC6/PT6 (io), 18 IOC7/PT7 (io), 19 KWJ3/PJ3 (io), 20 KWJ2/PJ2 (io), 21 KWJ1/PJ1 (io), 22 KWJ0/PJ0 (io), 23 SMODN/~{TAGHI}/BKGD (io), 24 ADDR0/DATA0/PB0 (io), 25 ADDR1/DATA1/PB1 (io), 26 ADDR2/DATA2/PB2 (io), 27 ADDR3/DATA3/PB3 (io), 28 ADDR4/DATA4/PB4 (io), 29 ADDR5/DATA5/PB5 (io), 30 ADDR6/DATA6/PB6 (io), 31 ADDR7/DATA7/PB7 (io), 32 KWH7/PH7 (io), 33 KWH6/PH6 (io), 34 KWH5/PH5 (io), 35 KWH4/PH4 (io), 36 ~{ECLK}/~{DBE}/CAL/PE7 (io), 37 CGMTST/MODB/IPIPE1/PE6 (io), 38 MODA/IPIPE0/PE5 (io), 39 ECLK/PE4 (io), 40 VSSX (power), 41 VSTBY (power), 42 VDDX (power), 43 VDDPLL (power), 44 XFC, 45 VSSPLL (power), 46 ~{RESET} (io), 47 EXTAL (in), 48 XTAL (out), 49 KWH3/PH3 (io), 50 KWH2/PH2 (io), 51 KWH1/PH1 (io), 52 KWH0/PH0 (io), 53 ~{LSTRB}/~{TAGLO}/PE3 (io), 54 R/~{W}/PE2 (io), 55 ~{IRQ}/PE1 (in), 56 ~{XIRQ}/PE0 (in), 57 PA0/ADDR8/DATA8/DATA0 (io), 58 PA1/ADDR9/DATA9/DATA1 (io), 59 PA2/ADDR10/DATA10/DATA2 (io), 60 PA3/ADDR11/DATA11/DATA3 (io), 61 PA4/ADDR12/DATA12/DATA4 (io), 62 PA5/ADDR13/DATA13/DATA5 (io), 63 PA6/ADDR14/DATA14/DATA6 (io), 64 PA7/ADDR15/DATA15/DATA7 (io), 65 VDD (power), 66 VSS (power), 67 VRH0 (in), 68 VRL0 (in), 69 PAD0/AN0 (in), 70 PAD10/AN10 (in), 71 PAD1/AN1 (in), 72 PAD11/AN11 (in), 73 PAD2/AN2 (in), 74 PAD12/AN12 (in), 75 PAD3/AN3 (in), 76 PAD13/AN13 (in), 77 PAD4/AN4 (in), 78 PAD14/AN14 (in), 79 PAD5/AN5 (in), 80 PAD15/AN15 (in), 81 PAD6/AN6 (in), 82 PAD16/AN16 (in), 83 PAD7/AN7 (in), 84 PAD17/AN17 (in), 85 VDDA (power), 86 VRH1 (in), 87 VRL1 (in), 88 VSSA (power), 89 PS0/RXD0 (io), 90 PS1/TXD0 (io), 91 PS2/RXD1 (io), 92 PS3/TXD1 (io), 93 PS4/SDI/MISO (io), 94 PS5/SDO/MOSI (io), 95 PS6/SCK (io), 96 PS7/~{SS} (io), 97 TEST (in), 98 PIB7/SCL (io), 99 PIB6/SDA (io), 100 PIB5 (io), 101 PIB4 (io), 102 TXCAN1 (out), 103 RXCAN1 (in), 104 TXCAN0 (out), 105 RXCAN0 (in), 106 VSSX (power), 107 VDDX (power), 108 PK7/~{ECS} (io), 109 PK2/PIX2 (io), 110 PK1/PIX1 (io), 111 PK0/PIX0 (io), 112 PW3/PP3 (io)